# Altium schematic symbol library MCU_Texas_MSP430.SchLib: 361 symbols (part 2 of 9)
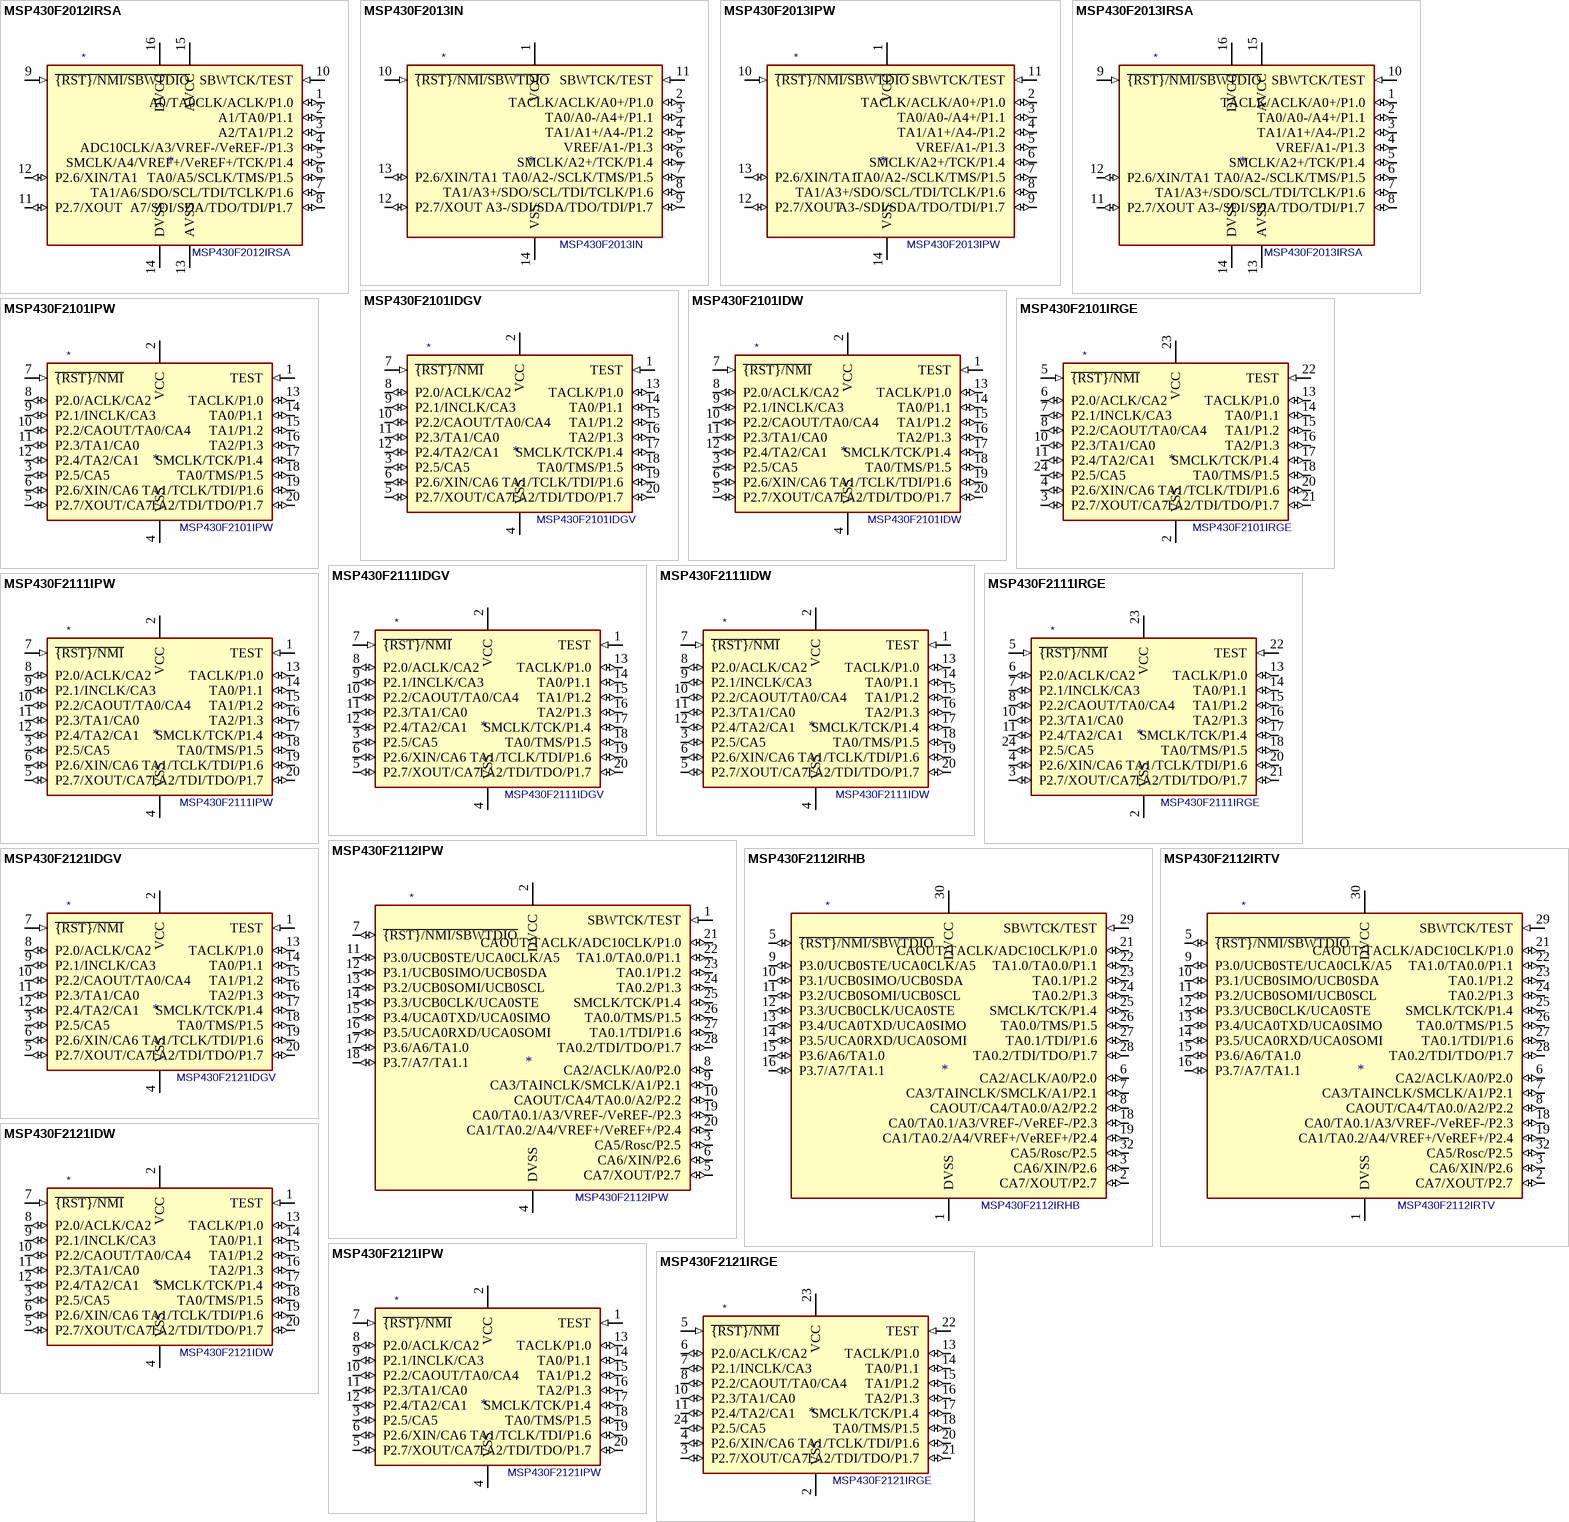
[diagram p35: symbols MSP430F2012IRSA to MSP430F2121IRGE]

## MSP430F2101IDW
designator *  value MSP430F2101IDW
ki_keywords: TI MSP430 16-bit mixed signal microcontroller; ki_description: 1kB + 256B Flash, 128B RAM, SOWB-20; ki_fp_filters: SOIC*7.5x12.8mm*P1.27mm*; Footprint: Package_SO:SOIC-20W_7.5x12.8mm_P1.27mm; Supplier: http://www.ti.com/lit/ds/symlink/msp430f2101.pdf
footprint SOIC-20W_7.5x12.8mm_P1.27mm
pins: 1 TEST (in), 2 VCC (power), 3 P2.5/CA5 (io), 4 VSS (power), 5 P2.7/XOUT/CA7 (io), 6 P2.6/XIN/CA6 (io), 7 ~{{RST}/NMI} (in), 8 P2.0/ACLK/CA2 (io), 9 P2.1/INCLK/CA3 (io), 10 P2.2/CAOUT/TA0/CA4 (io), 11 P2.3/TA1/CA0 (io), 12 P2.4/TA2/CA1 (io), 13 TACLK/P1.0 (io), 14 TA0/P1.1 (io), 15 TA1/P1.2 (io), 16 TA2/P1.3 (io), 17 SMCLK/TCK/P1.4 (io), 18 TA0/TMS/P1.5 (io), 19 TA1/TCLK/TDI/P1.6 (io), 20 TA2/TDI/TDO/P1.7 (io)

## MSP430F2101IPW
designator *  value MSP430F2101IPW
ki_keywords: TI MSP430 16-bit mixed signal microcontroller; ki_description: 1kB + 256B Flash, 128B RAM, TSSOP-20; ki_fp_filters: TSSOP*4.4x6.5mm*P0.65mm*; Footprint: Package_SO:TSSOP-20_4.4x6.5mm_P0.65mm; Supplier: http://www.ti.com/lit/ds/symlink/msp430f2101.pdf
footprint TSSOP-20_4.4x6.5mm_P0.65mm
pins: 1 TEST (in), 2 VCC (power), 3 P2.5/CA5 (io), 4 VSS (power), 5 P2.7/XOUT/CA7 (io), 6 P2.6/XIN/CA6 (io), 7 ~{{RST}/NMI} (in), 8 P2.0/ACLK/CA2 (io), 9 P2.1/INCLK/CA3 (io), 10 P2.2/CAOUT/TA0/CA4 (io), 11 P2.3/TA1/CA0 (io), 12 P2.4/TA2/CA1 (io), 13 TACLK/P1.0 (io), 14 TA0/P1.1 (io), 15 TA1/P1.2 (io), 16 TA2/P1.3 (io), 17 SMCLK/TCK/P1.4 (io), 18 TA0/TMS/P1.5 (io), 19 TA1/TCLK/TDI/P1.6 (io), 20 TA2/TDI/TDO/P1.7 (io)

## MSP430F2101IRGE
designator *  value MSP430F2101IRGE
ki_keywords: TI MSP430 16-bit mixed signal microcontroller; ki_description: 1kB + 256B Flash, 128B RAM, QFN-24; ki_fp_filters: VQFN*1EP*4x4mm*P0.5mm*; Footprint: Package_DFN_QFN:VQFN-24-1EP_4x4mm_P0.5mm_EP2.45x2.45mm; Supplier: http://www.ti.com/lit/ds/symlink/msp430f2101.pdf
footprint VQFN-24-1EP_4x4mm_P0.5mm_EP2.45x2.45mm
pins: 2 VSS (power), 3 P2.7/XOUT/CA7 (io), 4 P2.6/XIN/CA6 (io), 5 ~{{RST}/NMI} (in), 6 P2.0/ACLK/CA2 (io), 7 P2.1/INCLK/CA3 (io), 8 P2.2/CAOUT/TA0/CA4 (io), 10 P2.3/TA1/CA0 (io), 11 P2.4/TA2/CA1 (io), 13 TACLK/P1.0 (io), 14 TA0/P1.1 (io), 15 TA1/P1.2 (io), 16 TA2/P1.3 (io), 17 SMCLK/TCK/P1.4 (io), 18 TA0/TMS/P1.5 (io), 20 TA1/TCLK/TDI/P1.6 (io), 21 TA2/TDI/TDO/P1.7 (io), 22 TEST (in), 23 VCC (power), 24 P2.5/CA5 (io)

## MSP430F2111IDGV
designator *  value MSP430F2111IDGV
ki_keywords: TI MSP430 16-bit mixed signal microcontroller; ki_description: 2kB + 256B Flash, 128B RAM, TVSOP-20; ki_fp_filters: TSSOP*4.4x6.5mm*P0.65mm*; Footprint: Package_SO:TSSOP-20_4.4x6.5mm_P0.65mm; Supplier: http://www.ti.com/lit/ds/symlink/msp430f2111.pdf
footprint TSSOP-20_4.4x6.5mm_P0.65mm
pins: 1 TEST (in), 2 VCC (power), 3 P2.5/CA5 (io), 4 VSS (power), 5 P2.7/XOUT/CA7 (io), 6 P2.6/XIN/CA6 (io), 7 ~{{RST}/NMI} (in), 8 P2.0/ACLK/CA2 (io), 9 P2.1/INCLK/CA3 (io), 10 P2.2/CAOUT/TA0/CA4 (io), 11 P2.3/TA1/CA0 (io), 12 P2.4/TA2/CA1 (io), 13 TACLK/P1.0 (io), 14 TA0/P1.1 (io), 15 TA1/P1.2 (io), 16 TA2/P1.3 (io), 17 SMCLK/TCK/P1.4 (io), 18 TA0/TMS/P1.5 (io), 19 TA1/TCLK/TDI/P1.6 (io), 20 TA2/TDI/TDO/P1.7 (io)

## MSP430F2111IDW
designator *  value MSP430F2111IDW
ki_keywords: TI MSP430 16-bit mixed signal microcontroller; ki_description: 2kB + 256B Flash, 128B RAM, SOWB-20; ki_fp_filters: SOIC*7.5x12.8mm*P1.27mm*; Footprint: Package_SO:SOIC-20W_7.5x12.8mm_P1.27mm; Supplier: http://www.ti.com/lit/ds/symlink/msp430f2111.pdf
footprint SOIC-20W_7.5x12.8mm_P1.27mm
pins: 1 TEST (in), 2 VCC (power), 3 P2.5/CA5 (io), 4 VSS (power), 5 P2.7/XOUT/CA7 (io), 6 P2.6/XIN/CA6 (io), 7 ~{{RST}/NMI} (in), 8 P2.0/ACLK/CA2 (io), 9 P2.1/INCLK/CA3 (io), 10 P2.2/CAOUT/TA0/CA4 (io), 11 P2.3/TA1/CA0 (io), 12 P2.4/TA2/CA1 (io), 13 TACLK/P1.0 (io), 14 TA0/P1.1 (io), 15 TA1/P1.2 (io), 16 TA2/P1.3 (io), 17 SMCLK/TCK/P1.4 (io), 18 TA0/TMS/P1.5 (io), 19 TA1/TCLK/TDI/P1.6 (io), 20 TA2/TDI/TDO/P1.7 (io)

## MSP430F2111IPW
designator *  value MSP430F2111IPW
ki_keywords: TI MSP430 16-bit mixed signal microcontroller; ki_description: 2kB + 256B Flash, 128B RAM, TSSOP-20; ki_fp_filters: TSSOP*4.4x6.5mm*P0.65mm*; Footprint: Package_SO:TSSOP-20_4.4x6.5mm_P0.65mm; Supplier: http://www.ti.com/lit/ds/symlink/msp430f2111.pdf
footprint TSSOP-20_4.4x6.5mm_P0.65mm
pins: 1 TEST (in), 2 VCC (power), 3 P2.5/CA5 (io), 4 VSS (power), 5 P2.7/XOUT/CA7 (io), 6 P2.6/XIN/CA6 (io), 7 ~{{RST}/NMI} (in), 8 P2.0/ACLK/CA2 (io), 9 P2.1/INCLK/CA3 (io), 10 P2.2/CAOUT/TA0/CA4 (io), 11 P2.3/TA1/CA0 (io), 12 P2.4/TA2/CA1 (io), 13 TACLK/P1.0 (io), 14 TA0/P1.1 (io), 15 TA1/P1.2 (io), 16 TA2/P1.3 (io), 17 SMCLK/TCK/P1.4 (io), 18 TA0/TMS/P1.5 (io), 19 TA1/TCLK/TDI/P1.6 (io), 20 TA2/TDI/TDO/P1.7 (io)

## MSP430F2111IRGE
designator *  value MSP430F2111IRGE
ki_keywords: TI MSP430 16-bit mixed signal microcontroller; ki_description: 2kB + 256B Flash, 128B RAM, QFN-24; ki_fp_filters: VQFN*1EP*4x4mm*P0.5mm*; Footprint: Package_DFN_QFN:VQFN-24-1EP_4x4mm_P0.5mm_EP2.45x2.45mm; Supplier: http://www.ti.com/lit/ds/symlink/msp430f2111.pdf
footprint VQFN-24-1EP_4x4mm_P0.5mm_EP2.45x2.45mm
pins: 2 VSS (power), 3 P2.7/XOUT/CA7 (io), 4 P2.6/XIN/CA6 (io), 5 ~{{RST}/NMI} (in), 6 P2.0/ACLK/CA2 (io), 7 P2.1/INCLK/CA3 (io), 8 P2.2/CAOUT/TA0/CA4 (io), 10 P2.3/TA1/CA0 (io), 11 P2.4/TA2/CA1 (io), 13 TACLK/P1.0 (io), 14 TA0/P1.1 (io), 15 TA1/P1.2 (io), 16 TA2/P1.3 (io), 17 SMCLK/TCK/P1.4 (io), 18 TA0/TMS/P1.5 (io), 20 TA1/TCLK/TDI/P1.6 (io), 21 TA2/TDI/TDO/P1.7 (io), 22 TEST (in), 23 VCC (power), 24 P2.5/CA5 (io)

## MSP430F2112IPW
designator *  value MSP430F2112IPW
ki_keywords: TI MSP430 16-bit mixed signal microcontroller; ki_description: 2kB + 256B Flash, 256B RAM, TSSOP-28; ki_fp_filters: TSSOP*4.4x9.7mm*P0.65mm*; Footprint: Package_SO:TSSOP-28_4.4x9.7mm_P0.65mm; Supplier: http://www.ti.com/lit/ds/symlink/msp430f2112.pdf
footprint TSSOP-28_4.4x9.7mm_P0.65mm
pins: 1 SBWTCK/TEST (in), 2 DVCC (power), 3 CA5/Rosc/P2.5 (io), 4 DVSS (power), 5 CA7/XOUT/P2.7 (io), 6 CA6/XIN/P2.6 (io), 7 ~{{RST}/NMI/SBWTDIO} (io), 8 CA2/ACLK/A0/P2.0 (io), 9 CA3/TAINCLK/SMCLK/A1/P2.1 (io), 10 CAOUT/CA4/TA0.0/A2/P2.2 (io), 11 P3.0/UCB0STE/UCA0CLK/A5 (io), 12 P3.1/UCB0SIMO/UCB0SDA (io), 13 P3.2/UCB0SOMI/UCB0SCL (io), 14 P3.3/UCB0CLK/UCA0STE (io), 15 P3.4/UCA0TXD/UCA0SIMO (io), 16 P3.5/UCA0RXD/UCA0SOMI (io), 17 P3.6/A6/TA1.0 (io), 18 P3.7/A7/TA1.1 (io), 19 CA0/TA0.1/A3/VREF-/VeREF-/P2.3 (io), 20 CA1/TA0.2/A4/VREF+/VeREF+/P2.4 (io), 21 CAOUT/TACLK/ADC10CLK/P1.0 (io), 22 TA1.0/TA0.0/P1.1 (io), 23 TA0.1/P1.2 (io), 24 TA0.2/P1.3 (io), 25 SMCLK/TCK/P1.4 (io), 26 TA0.0/TMS/P1.5 (io), 27 TA0.1/TDI/P1.6 (io), 28 TA0.2/TDI/TDO/P1.7 (io)

## MSP430F2112IRHB
designator *  value MSP430F2112IRHB
ki_keywords: TI MSP430 16-bit mixed signal microcontroller; ki_description: 2kB + 256B Flash, 256B RAM, QFN-32; ki_fp_filters: Texas*S?PVQFN*; Footprint: Package_DFN_QFN:Texas_S-PVQFN-N32_EP3.45x3.45mm; Supplier: http://www.ti.com/lit/ds/symlink/msp430f2112.pdf
footprint Texas_S-PVQFN-N32_EP3.45x3.45mm
pins: 1 DVSS (power), 2 CA7/XOUT/P2.7 (io), 3 CA6/XIN/P2.6 (io), 5 ~{{RST}/NMI/SBWTDIO} (io), 6 CA2/ACLK/A0/P2.0 (io), 7 CA3/TAINCLK/SMCLK/A1/P2.1 (io), 8 CAOUT/CA4/TA0.0/A2/P2.2 (io), 9 P3.0/UCB0STE/UCA0CLK/A5 (io), 10 P3.1/UCB0SIMO/UCB0SDA (io), 11 P3.2/UCB0SOMI/UCB0SCL (io), 12 P3.3/UCB0CLK/UCA0STE (io), 13 P3.4/UCA0TXD/UCA0SIMO (io), 14 P3.5/UCA0RXD/UCA0SOMI (io), 15 P3.6/A6/TA1.0 (io), 16 P3.7/A7/TA1.1 (io), 18 CA0/TA0.1/A3/VREF-/VeREF-/P2.3 (io), 19 CA1/TA0.2/A4/VREF+/VeREF+/P2.4 (io), 21 CAOUT/TACLK/ADC10CLK/P1.0 (io), 22 TA1.0/TA0.0/P1.1 (io), 23 TA0.1/P1.2 (io), 24 TA0.2/P1.3 (io), 25 SMCLK/TCK/P1.4 (io), 26 TA0.0/TMS/P1.5 (io), 27 TA0.1/TDI/P1.6 (io), 28 TA0.2/TDI/TDO/P1.7 (io), 29 SBWTCK/TEST (in), 30 DVCC (power), 32 CA5/Rosc/P2.5 (io)

## MSP430F2112IRTV
designator *  value MSP430F2112IRTV
ki_keywords: TI MSP430 16-bit mixed signal microcontroller; ki_description: 2kB + 256B Flash, 256B RAM, QFN-32; ki_fp_filters: Texas*S?PVQFN*; Footprint: Package_DFN_QFN:Texas_S-PVQFN-N32_EP3.45x3.45mm; Supplier: http://www.ti.com/lit/ds/symlink/msp430f2112.pdf
footprint Texas_S-PVQFN-N32_EP3.45x3.45mm
pins: 1 DVSS (power), 2 CA7/XOUT/P2.7 (io), 3 CA6/XIN/P2.6 (io), 5 ~{{RST}/NMI/SBWTDIO} (io), 6 CA2/ACLK/A0/P2.0 (io), 7 CA3/TAINCLK/SMCLK/A1/P2.1 (io), 8 CAOUT/CA4/TA0.0/A2/P2.2 (io), 9 P3.0/UCB0STE/UCA0CLK/A5 (io), 10 P3.1/UCB0SIMO/UCB0SDA (io), 11 P3.2/UCB0SOMI/UCB0SCL (io), 12 P3.3/UCB0CLK/UCA0STE (io), 13 P3.4/UCA0TXD/UCA0SIMO (io), 14 P3.5/UCA0RXD/UCA0SOMI (io), 15 P3.6/A6/TA1.0 (io), 16 P3.7/A7/TA1.1 (io), 18 CA0/TA0.1/A3/VREF-/VeREF-/P2.3 (io), 19 CA1/TA0.2/A4/VREF+/VeREF+/P2.4 (io), 21 CAOUT/TACLK/ADC10CLK/P1.0 (io), 22 TA1.0/TA0.0/P1.1 (io), 23 TA0.1/P1.2 (io), 24 TA0.2/P1.3 (io), 25 SMCLK/TCK/P1.4 (io), 26 TA0.0/TMS/P1.5 (io), 27 TA0.1/TDI/P1.6 (io), 28 TA0.2/TDI/TDO/P1.7 (io), 29 SBWTCK/TEST (in), 30 DVCC (power), 32 CA5/Rosc/P2.5 (io)

## MSP430F2121IDGV
designator *  value MSP430F2121IDGV
ki_keywords: TI MSP430 16-bit mixed signal microcontroller; ki_description: 4kB + 256B Flash, 256B RAM, TVSOP-20; ki_fp_filters: TSSOP*4.4x6.5mm*P0.65mm*; Footprint: Package_SO:TSSOP-20_4.4x6.5mm_P0.65mm; Supplier: http://www.ti.com/lit/ds/symlink/msp430f2121.pdf
footprint TSSOP-20_4.4x6.5mm_P0.65mm
pins: 1 TEST (in), 2 VCC (power), 3 P2.5/CA5 (io), 4 VSS (power), 5 P2.7/XOUT/CA7 (io), 6 P2.6/XIN/CA6 (io), 7 ~{{RST}/NMI} (in), 8 P2.0/ACLK/CA2 (io), 9 P2.1/INCLK/CA3 (io), 10 P2.2/CAOUT/TA0/CA4 (io), 11 P2.3/TA1/CA0 (io), 12 P2.4/TA2/CA1 (io), 13 TACLK/P1.0 (io), 14 TA0/P1.1 (io), 15 TA1/P1.2 (io), 16 TA2/P1.3 (io), 17 SMCLK/TCK/P1.4 (io), 18 TA0/TMS/P1.5 (io), 19 TA1/TCLK/TDI/P1.6 (io), 20 TA2/TDI/TDO/P1.7 (io)

## MSP430F2121IDW
designator *  value MSP430F2121IDW
ki_keywords: TI MSP430 16-bit mixed signal microcontroller; ki_description: 4kB + 256B Flash, 256B RAM, SOWB-20; ki_fp_filters: SOIC*7.5x12.8mm*P1.27mm*; Footprint: Package_SO:SOIC-20W_7.5x12.8mm_P1.27mm; Supplier: http://www.ti.com/lit/ds/symlink/msp430f2121.pdf
footprint SOIC-20W_7.5x12.8mm_P1.27mm
pins: 1 TEST (in), 2 VCC (power), 3 P2.5/CA5 (io), 4 VSS (power), 5 P2.7/XOUT/CA7 (io), 6 P2.6/XIN/CA6 (io), 7 ~{{RST}/NMI} (in), 8 P2.0/ACLK/CA2 (io), 9 P2.1/INCLK/CA3 (io), 10 P2.2/CAOUT/TA0/CA4 (io), 11 P2.3/TA1/CA0 (io), 12 P2.4/TA2/CA1 (io), 13 TACLK/P1.0 (io), 14 TA0/P1.1 (io), 15 TA1/P1.2 (io), 16 TA2/P1.3 (io), 17 SMCLK/TCK/P1.4 (io), 18 TA0/TMS/P1.5 (io), 19 TA1/TCLK/TDI/P1.6 (io), 20 TA2/TDI/TDO/P1.7 (io)

## MSP430F2121IPW
designator *  value MSP430F2121IPW
ki_keywords: TI MSP430 16-bit mixed signal microcontroller; ki_description: 4kB + 256B Flash, 256B RAM, TSSOP-20; ki_fp_filters: TSSOP*4.4x6.5mm*P0.65mm*; Footprint: Package_SO:TSSOP-20_4.4x6.5mm_P0.65mm; Supplier: http://www.ti.com/lit/ds/symlink/msp430f2121.pdf
footprint TSSOP-20_4.4x6.5mm_P0.65mm
pins: 1 TEST (in), 2 VCC (power), 3 P2.5/CA5 (io), 4 VSS (power), 5 P2.7/XOUT/CA7 (io), 6 P2.6/XIN/CA6 (io), 7 ~{{RST}/NMI} (in), 8 P2.0/ACLK/CA2 (io), 9 P2.1/INCLK/CA3 (io), 10 P2.2/CAOUT/TA0/CA4 (io), 11 P2.3/TA1/CA0 (io), 12 P2.4/TA2/CA1 (io), 13 TACLK/P1.0 (io), 14 TA0/P1.1 (io), 15 TA1/P1.2 (io), 16 TA2/P1.3 (io), 17 SMCLK/TCK/P1.4 (io), 18 TA0/TMS/P1.5 (io), 19 TA1/TCLK/TDI/P1.6 (io), 20 TA2/TDI/TDO/P1.7 (io)

## MSP430F2121IRGE
designator *  value MSP430F2121IRGE
ki_keywords: TI MSP430 16-bit mixed signal microcontroller; ki_description: 4kB + 256B Flash, 256B RAM, QFN-24; ki_fp_filters: VQFN*1EP*4x4mm*P0.5mm*; Footprint: Package_DFN_QFN:VQFN-24-1EP_4x4mm_P0.5mm_EP2.45x2.45mm; Supplier: http://www.ti.com/lit/ds/symlink/msp430f2121.pdf
footprint VQFN-24-1EP_4x4mm_P0.5mm_EP2.45x2.45mm
pins: 2 VSS (power), 3 P2.7/XOUT/CA7 (io), 4 P2.6/XIN/CA6 (io), 5 ~{{RST}/NMI} (in), 6 P2.0/ACLK/CA2 (io), 7 P2.1/INCLK/CA3 (io), 8 P2.2/CAOUT/TA0/CA4 (io), 10 P2.3/TA1/CA0 (io), 11 P2.4/TA2/CA1 (io), 13 TACLK/P1.0 (io), 14 TA0/P1.1 (io), 15 TA1/P1.2 (io), 16 TA2/P1.3 (io), 17 SMCLK/TCK/P1.4 (io), 18 TA0/TMS/P1.5 (io), 20 TA1/TCLK/TDI/P1.6 (io), 21 TA2/TDI/TDO/P1.7 (io), 22 TEST (in), 23 VCC (power), 24 P2.5/CA5 (io)

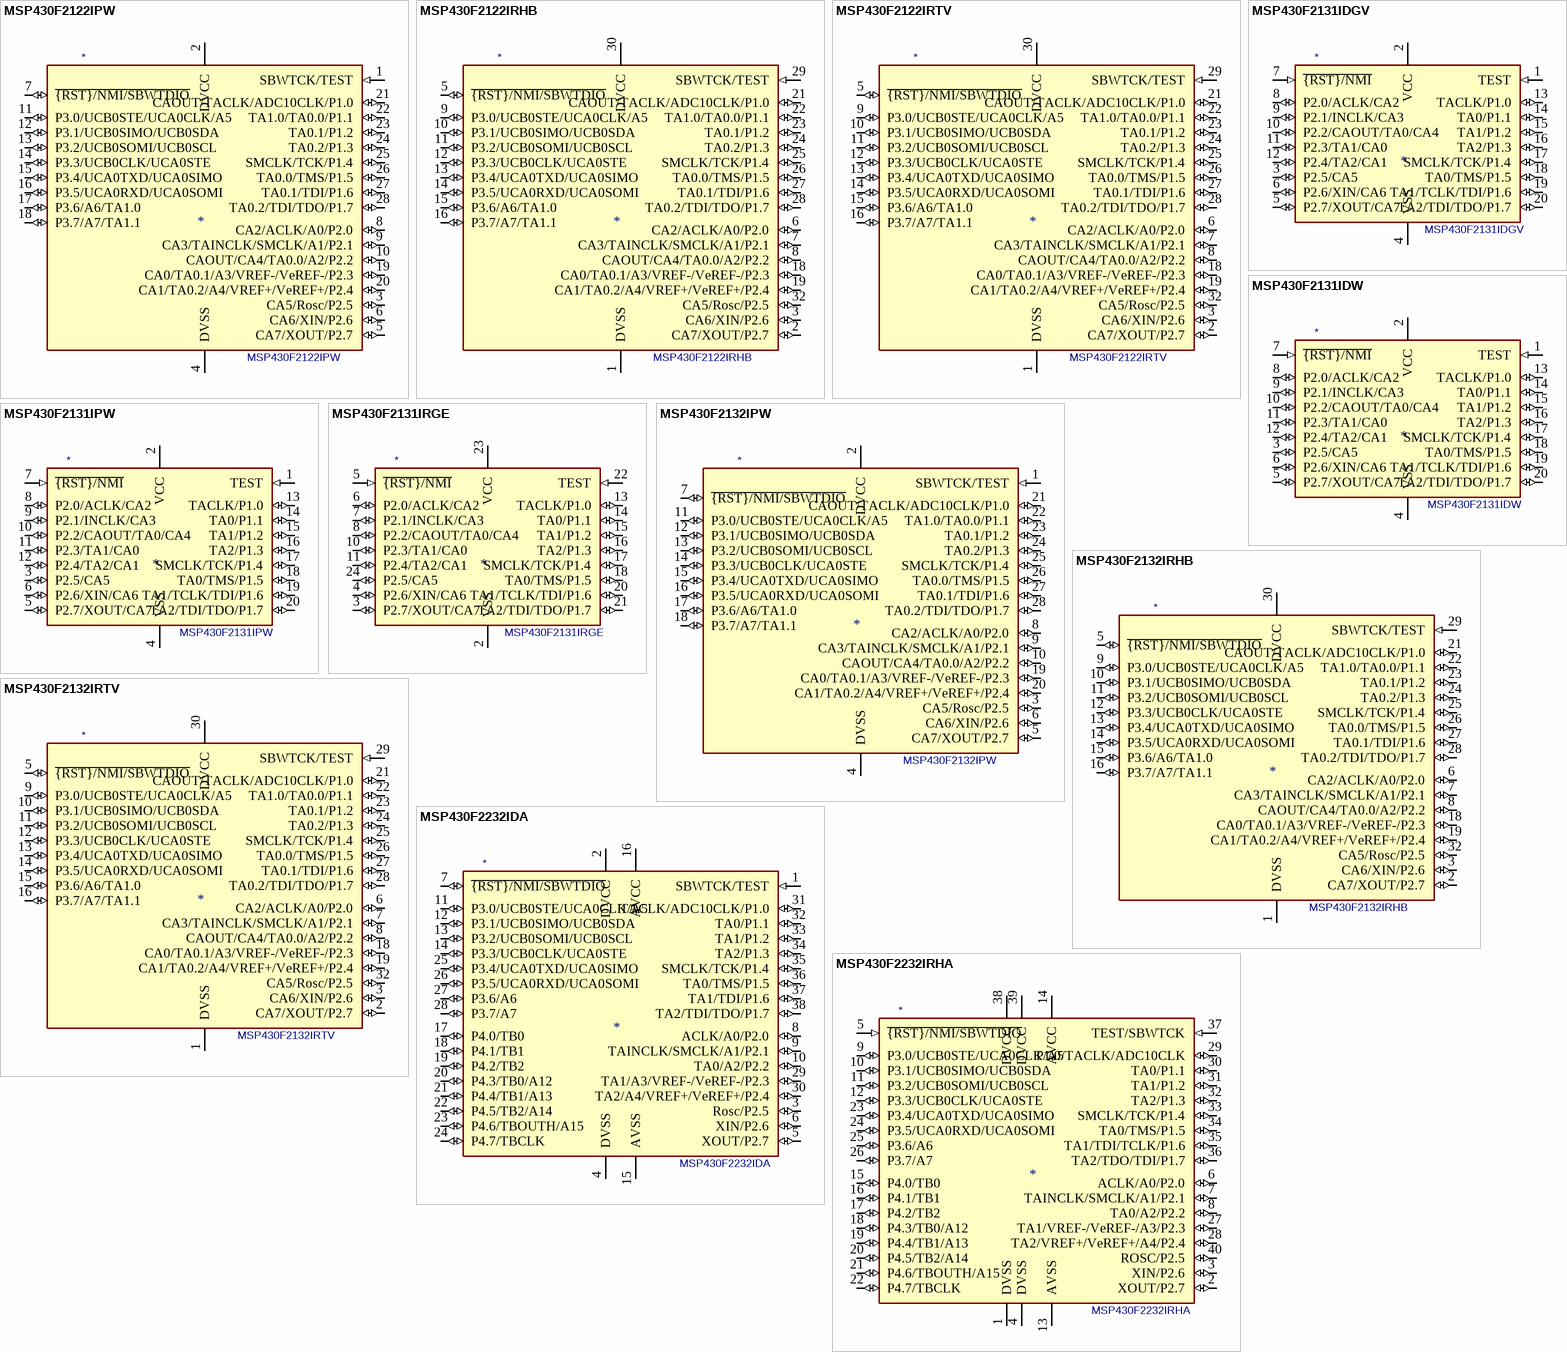
[diagram p4: symbols MSP430F2122IPW to MSP430F2232IRHA]

## MSP430F2122IPW
designator *  value MSP430F2122IPW
ki_keywords: TI MSP430 16-bit mixed signal microcontroller; ki_description: 4kB + 256B Flash, 512B RAM, TSSOP-28; ki_fp_filters: TSSOP*4.4x9.7mm*P0.65mm*; Footprint: Package_SO:TSSOP-28_4.4x9.7mm_P0.65mm; Supplier: http://www.ti.com/lit/ds/symlink/msp430f2122.pdf
footprint TSSOP-28_4.4x9.7mm_P0.65mm
pins: 1 SBWTCK/TEST (in), 2 DVCC (power), 3 CA5/Rosc/P2.5 (io), 4 DVSS (power), 5 CA7/XOUT/P2.7 (io), 6 CA6/XIN/P2.6 (io), 7 ~{{RST}/NMI/SBWTDIO} (io), 8 CA2/ACLK/A0/P2.0 (io), 9 CA3/TAINCLK/SMCLK/A1/P2.1 (io), 10 CAOUT/CA4/TA0.0/A2/P2.2 (io), 11 P3.0/UCB0STE/UCA0CLK/A5 (io), 12 P3.1/UCB0SIMO/UCB0SDA (io), 13 P3.2/UCB0SOMI/UCB0SCL (io), 14 P3.3/UCB0CLK/UCA0STE (io), 15 P3.4/UCA0TXD/UCA0SIMO (io), 16 P3.5/UCA0RXD/UCA0SOMI (io), 17 P3.6/A6/TA1.0 (io), 18 P3.7/A7/TA1.1 (io), 19 CA0/TA0.1/A3/VREF-/VeREF-/P2.3 (io), 20 CA1/TA0.2/A4/VREF+/VeREF+/P2.4 (io), 21 CAOUT/TACLK/ADC10CLK/P1.0 (io), 22 TA1.0/TA0.0/P1.1 (io), 23 TA0.1/P1.2 (io), 24 TA0.2/P1.3 (io), 25 SMCLK/TCK/P1.4 (io), 26 TA0.0/TMS/P1.5 (io), 27 TA0.1/TDI/P1.6 (io), 28 TA0.2/TDI/TDO/P1.7 (io)

## MSP430F2122IRHB
designator *  value MSP430F2122IRHB
ki_keywords: TI MSP430 16-bit mixed signal microcontroller; ki_description: 4kB + 256B Flash, 512B RAM, QFN-32; ki_fp_filters: Texas*S?PVQFN*; Footprint: Package_DFN_QFN:Texas_S-PVQFN-N32_EP3.45x3.45mm; Supplier: http://www.ti.com/lit/ds/symlink/msp430f2122.pdf
footprint Texas_S-PVQFN-N32_EP3.45x3.45mm
pins: 1 DVSS (power), 2 CA7/XOUT/P2.7 (io), 3 CA6/XIN/P2.6 (io), 5 ~{{RST}/NMI/SBWTDIO} (io), 6 CA2/ACLK/A0/P2.0 (io), 7 CA3/TAINCLK/SMCLK/A1/P2.1 (io), 8 CAOUT/CA4/TA0.0/A2/P2.2 (io), 9 P3.0/UCB0STE/UCA0CLK/A5 (io), 10 P3.1/UCB0SIMO/UCB0SDA (io), 11 P3.2/UCB0SOMI/UCB0SCL (io), 12 P3.3/UCB0CLK/UCA0STE (io), 13 P3.4/UCA0TXD/UCA0SIMO (io), 14 P3.5/UCA0RXD/UCA0SOMI (io), 15 P3.6/A6/TA1.0 (io), 16 P3.7/A7/TA1.1 (io), 18 CA0/TA0.1/A3/VREF-/VeREF-/P2.3 (io), 19 CA1/TA0.2/A4/VREF+/VeREF+/P2.4 (io), 21 CAOUT/TACLK/ADC10CLK/P1.0 (io), 22 TA1.0/TA0.0/P1.1 (io), 23 TA0.1/P1.2 (io), 24 TA0.2/P1.3 (io), 25 SMCLK/TCK/P1.4 (io), 26 TA0.0/TMS/P1.5 (io), 27 TA0.1/TDI/P1.6 (io), 28 TA0.2/TDI/TDO/P1.7 (io), 29 SBWTCK/TEST (in), 30 DVCC (power), 32 CA5/Rosc/P2.5 (io)

## MSP430F2122IRTV
designator *  value MSP430F2122IRTV
ki_keywords: TI MSP430 16-bit mixed signal microcontroller; ki_description: 4kB + 256B Flash, 512B RAM, QFN-32; ki_fp_filters: Texas*S?PVQFN*; Footprint: Package_DFN_QFN:Texas_S-PVQFN-N32_EP3.45x3.45mm; Supplier: http://www.ti.com/lit/ds/symlink/msp430f2122.pdf
footprint Texas_S-PVQFN-N32_EP3.45x3.45mm
pins: 1 DVSS (power), 2 CA7/XOUT/P2.7 (io), 3 CA6/XIN/P2.6 (io), 5 ~{{RST}/NMI/SBWTDIO} (io), 6 CA2/ACLK/A0/P2.0 (io), 7 CA3/TAINCLK/SMCLK/A1/P2.1 (io), 8 CAOUT/CA4/TA0.0/A2/P2.2 (io), 9 P3.0/UCB0STE/UCA0CLK/A5 (io), 10 P3.1/UCB0SIMO/UCB0SDA (io), 11 P3.2/UCB0SOMI/UCB0SCL (io), 12 P3.3/UCB0CLK/UCA0STE (io), 13 P3.4/UCA0TXD/UCA0SIMO (io), 14 P3.5/UCA0RXD/UCA0SOMI (io), 15 P3.6/A6/TA1.0 (io), 16 P3.7/A7/TA1.1 (io), 18 CA0/TA0.1/A3/VREF-/VeREF-/P2.3 (io), 19 CA1/TA0.2/A4/VREF+/VeREF+/P2.4 (io), 21 CAOUT/TACLK/ADC10CLK/P1.0 (io), 22 TA1.0/TA0.0/P1.1 (io), 23 TA0.1/P1.2 (io), 24 TA0.2/P1.3 (io), 25 SMCLK/TCK/P1.4 (io), 26 TA0.0/TMS/P1.5 (io), 27 TA0.1/TDI/P1.6 (io), 28 TA0.2/TDI/TDO/P1.7 (io), 29 SBWTCK/TEST (in), 30 DVCC (power), 32 CA5/Rosc/P2.5 (io)

## MSP430F2131IDGV
designator *  value MSP430F2131IDGV
ki_keywords: TI MSP430 16-bit mixed signal microcontroller; ki_description: 8kB + 256B Flash, 256B RAM, TVSOP-20; ki_fp_filters: TSSOP*4.4x6.5mm*P0.65mm*; Footprint: Package_SO:TSSOP-20_4.4x6.5mm_P0.65mm; Supplier: http://www.ti.com/lit/ds/symlink/msp430f2131.pdf
footprint TSSOP-20_4.4x6.5mm_P0.65mm
pins: 1 TEST (in), 2 VCC (power), 3 P2.5/CA5 (io), 4 VSS (power), 5 P2.7/XOUT/CA7 (io), 6 P2.6/XIN/CA6 (io), 7 ~{{RST}/NMI} (in), 8 P2.0/ACLK/CA2 (io), 9 P2.1/INCLK/CA3 (io), 10 P2.2/CAOUT/TA0/CA4 (io), 11 P2.3/TA1/CA0 (io), 12 P2.4/TA2/CA1 (io), 13 TACLK/P1.0 (io), 14 TA0/P1.1 (io), 15 TA1/P1.2 (io), 16 TA2/P1.3 (io), 17 SMCLK/TCK/P1.4 (io), 18 TA0/TMS/P1.5 (io), 19 TA1/TCLK/TDI/P1.6 (io), 20 TA2/TDI/TDO/P1.7 (io)

## MSP430F2131IDW
designator *  value MSP430F2131IDW
ki_keywords: TI MSP430 16-bit mixed signal microcontroller; ki_description: 8kB + 256B Flash, 256B RAM, SOWB-20; ki_fp_filters: SOIC*7.5x12.8mm*P1.27mm*; Footprint: Package_SO:SOIC-20W_7.5x12.8mm_P1.27mm; Supplier: http://www.ti.com/lit/ds/symlink/msp430f2131.pdf
footprint SOIC-20W_7.5x12.8mm_P1.27mm
pins: 1 TEST (in), 2 VCC (power), 3 P2.5/CA5 (io), 4 VSS (power), 5 P2.7/XOUT/CA7 (io), 6 P2.6/XIN/CA6 (io), 7 ~{{RST}/NMI} (in), 8 P2.0/ACLK/CA2 (io), 9 P2.1/INCLK/CA3 (io), 10 P2.2/CAOUT/TA0/CA4 (io), 11 P2.3/TA1/CA0 (io), 12 P2.4/TA2/CA1 (io), 13 TACLK/P1.0 (io), 14 TA0/P1.1 (io), 15 TA1/P1.2 (io), 16 TA2/P1.3 (io), 17 SMCLK/TCK/P1.4 (io), 18 TA0/TMS/P1.5 (io), 19 TA1/TCLK/TDI/P1.6 (io), 20 TA2/TDI/TDO/P1.7 (io)

## MSP430F2131IPW
designator *  value MSP430F2131IPW
ki_keywords: TI MSP430 16-bit mixed signal microcontroller; ki_description: 8kB + 256B Flash, 256B RAM, TSSOP-20; ki_fp_filters: TSSOP*4.4x6.5mm*P0.65mm*; Footprint: Package_SO:TSSOP-20_4.4x6.5mm_P0.65mm; Supplier: http://www.ti.com/lit/ds/symlink/msp430f2131.pdf
footprint TSSOP-20_4.4x6.5mm_P0.65mm
pins: 1 TEST (in), 2 VCC (power), 3 P2.5/CA5 (io), 4 VSS (power), 5 P2.7/XOUT/CA7 (io), 6 P2.6/XIN/CA6 (io), 7 ~{{RST}/NMI} (in), 8 P2.0/ACLK/CA2 (io), 9 P2.1/INCLK/CA3 (io), 10 P2.2/CAOUT/TA0/CA4 (io), 11 P2.3/TA1/CA0 (io), 12 P2.4/TA2/CA1 (io), 13 TACLK/P1.0 (io), 14 TA0/P1.1 (io), 15 TA1/P1.2 (io), 16 TA2/P1.3 (io), 17 SMCLK/TCK/P1.4 (io), 18 TA0/TMS/P1.5 (io), 19 TA1/TCLK/TDI/P1.6 (io), 20 TA2/TDI/TDO/P1.7 (io)

## MSP430F2131IRGE
designator *  value MSP430F2131IRGE
ki_keywords: TI MSP430 16-bit mixed signal microcontroller; ki_description: 8kB + 256B Flash, 256B RAM, QFN-24; ki_fp_filters: VQFN*1EP*4x4mm*P0.5mm*; Footprint: Package_DFN_QFN:VQFN-24-1EP_4x4mm_P0.5mm_EP2.45x2.45mm; Supplier: http://www.ti.com/lit/ds/symlink/msp430f2131.pdf
footprint VQFN-24-1EP_4x4mm_P0.5mm_EP2.45x2.45mm
pins: 2 VSS (power), 3 P2.7/XOUT/CA7 (io), 4 P2.6/XIN/CA6 (io), 5 ~{{RST}/NMI} (in), 6 P2.0/ACLK/CA2 (io), 7 P2.1/INCLK/CA3 (io), 8 P2.2/CAOUT/TA0/CA4 (io), 10 P2.3/TA1/CA0 (io), 11 P2.4/TA2/CA1 (io), 13 TACLK/P1.0 (io), 14 TA0/P1.1 (io), 15 TA1/P1.2 (io), 16 TA2/P1.3 (io), 17 SMCLK/TCK/P1.4 (io), 18 TA0/TMS/P1.5 (io), 20 TA1/TCLK/TDI/P1.6 (io), 21 TA2/TDI/TDO/P1.7 (io), 22 TEST (in), 23 VCC (power), 24 P2.5/CA5 (io)

## MSP430F2132IPW
designator *  value MSP430F2132IPW
ki_keywords: TI MSP430 16-bit mixed signal microcontroller; ki_description: 8kB + 256B Flash, 512B RAM, TSSOP-28; ki_fp_filters: TSSOP*4.4x9.7mm*P0.65mm*; Footprint: Package_SO:TSSOP-28_4.4x9.7mm_P0.65mm; Supplier: http://www.ti.com/lit/ds/symlink/msp430f2132.pdf
footprint TSSOP-28_4.4x9.7mm_P0.65mm
pins: 1 SBWTCK/TEST (in), 2 DVCC (power), 3 CA5/Rosc/P2.5 (io), 4 DVSS (power), 5 CA7/XOUT/P2.7 (io), 6 CA6/XIN/P2.6 (io), 7 ~{{RST}/NMI/SBWTDIO} (io), 8 CA2/ACLK/A0/P2.0 (io), 9 CA3/TAINCLK/SMCLK/A1/P2.1 (io), 10 CAOUT/CA4/TA0.0/A2/P2.2 (io), 11 P3.0/UCB0STE/UCA0CLK/A5 (io), 12 P3.1/UCB0SIMO/UCB0SDA (io), 13 P3.2/UCB0SOMI/UCB0SCL (io), 14 P3.3/UCB0CLK/UCA0STE (io), 15 P3.4/UCA0TXD/UCA0SIMO (io), 16 P3.5/UCA0RXD/UCA0SOMI (io), 17 P3.6/A6/TA1.0 (io), 18 P3.7/A7/TA1.1 (io), 19 CA0/TA0.1/A3/VREF-/VeREF-/P2.3 (io), 20 CA1/TA0.2/A4/VREF+/VeREF+/P2.4 (io), 21 CAOUT/TACLK/ADC10CLK/P1.0 (io), 22 TA1.0/TA0.0/P1.1 (io), 23 TA0.1/P1.2 (io), 24 TA0.2/P1.3 (io), 25 SMCLK/TCK/P1.4 (io), 26 TA0.0/TMS/P1.5 (io), 27 TA0.1/TDI/P1.6 (io), 28 TA0.2/TDI/TDO/P1.7 (io)

## MSP430F2132IRHB
designator *  value MSP430F2132IRHB
ki_keywords: TI MSP430 16-bit mixed signal microcontroller; ki_description: 8kB + 256B Flash, 512B RAM, QFN-32; ki_fp_filters: Texas*S?PVQFN*; Footprint: Package_DFN_QFN:Texas_S-PVQFN-N32_EP3.45x3.45mm; Supplier: http://www.ti.com/lit/ds/symlink/msp430f2132.pdf
footprint Texas_S-PVQFN-N32_EP3.45x3.45mm
pins: 1 DVSS (power), 2 CA7/XOUT/P2.7 (io), 3 CA6/XIN/P2.6 (io), 5 ~{{RST}/NMI/SBWTDIO} (io), 6 CA2/ACLK/A0/P2.0 (io), 7 CA3/TAINCLK/SMCLK/A1/P2.1 (io), 8 CAOUT/CA4/TA0.0/A2/P2.2 (io), 9 P3.0/UCB0STE/UCA0CLK/A5 (io), 10 P3.1/UCB0SIMO/UCB0SDA (io), 11 P3.2/UCB0SOMI/UCB0SCL (io), 12 P3.3/UCB0CLK/UCA0STE (io), 13 P3.4/UCA0TXD/UCA0SIMO (io), 14 P3.5/UCA0RXD/UCA0SOMI (io), 15 P3.6/A6/TA1.0 (io), 16 P3.7/A7/TA1.1 (io), 18 CA0/TA0.1/A3/VREF-/VeREF-/P2.3 (io), 19 CA1/TA0.2/A4/VREF+/VeREF+/P2.4 (io), 21 CAOUT/TACLK/ADC10CLK/P1.0 (io), 22 TA1.0/TA0.0/P1.1 (io), 23 TA0.1/P1.2 (io), 24 TA0.2/P1.3 (io), 25 SMCLK/TCK/P1.4 (io), 26 TA0.0/TMS/P1.5 (io), 27 TA0.1/TDI/P1.6 (io), 28 TA0.2/TDI/TDO/P1.7 (io), 29 SBWTCK/TEST (in), 30 DVCC (power), 32 CA5/Rosc/P2.5 (io)

## MSP430F2132IRTV
designator *  value MSP430F2132IRTV
ki_keywords: TI MSP430 16-bit mixed signal microcontroller; ki_description: 8kB + 256B Flash, 512B RAM, QFN-32; ki_fp_filters: Texas*S?PVQFN*; Footprint: Package_DFN_QFN:Texas_S-PVQFN-N32_EP3.45x3.45mm; Supplier: http://www.ti.com/lit/ds/symlink/msp430f2132.pdf
footprint Texas_S-PVQFN-N32_EP3.45x3.45mm
pins: 1 DVSS (power), 2 CA7/XOUT/P2.7 (io), 3 CA6/XIN/P2.6 (io), 5 ~{{RST}/NMI/SBWTDIO} (io), 6 CA2/ACLK/A0/P2.0 (io), 7 CA3/TAINCLK/SMCLK/A1/P2.1 (io), 8 CAOUT/CA4/TA0.0/A2/P2.2 (io), 9 P3.0/UCB0STE/UCA0CLK/A5 (io), 10 P3.1/UCB0SIMO/UCB0SDA (io), 11 P3.2/UCB0SOMI/UCB0SCL (io), 12 P3.3/UCB0CLK/UCA0STE (io), 13 P3.4/UCA0TXD/UCA0SIMO (io), 14 P3.5/UCA0RXD/UCA0SOMI (io), 15 P3.6/A6/TA1.0 (io), 16 P3.7/A7/TA1.1 (io), 18 CA0/TA0.1/A3/VREF-/VeREF-/P2.3 (io), 19 CA1/TA0.2/A4/VREF+/VeREF+/P2.4 (io), 21 CAOUT/TACLK/ADC10CLK/P1.0 (io), 22 TA1.0/TA0.0/P1.1 (io), 23 TA0.1/P1.2 (io), 24 TA0.2/P1.3 (io), 25 SMCLK/TCK/P1.4 (io), 26 TA0.0/TMS/P1.5 (io), 27 TA0.1/TDI/P1.6 (io), 28 TA0.2/TDI/TDO/P1.7 (io), 29 SBWTCK/TEST (in), 30 DVCC (power), 32 CA5/Rosc/P2.5 (io)

## MSP430F2232IDA
designator *  value MSP430F2232IDA
ki_keywords: TI MSP430 16-bit mixed signal microcontroller; ki_description: 8kB + 256B Flash, 512B RAM, TSSOP-38; ki_fp_filters: TSSOP*6.1x12.5mm*P0.65mm*; Footprint: Package_SO:TSSOP-38_6.1x12.5mm_P0.65mm; Supplier: http://www.ti.com/lit/ds/symlink/msp430f2232.pdf
footprint TSSOP-38_6.1x12.5mm_P0.65mm
pins: 1 SBWTCK/TEST (in), 2 DVCC (power), 3 Rosc/P2.5 (io), 4 DVSS (power), 5 XOUT/P2.7 (io), 6 XIN/P2.6 (io), 7 ~{{RST}/NMI/SBWTDIO} (io), 8 ACLK/A0/P2.0 (io), 9 TAINCLK/SMCLK/A1/P2.1 (io), 10 TA0/A2/P2.2 (io), 11 P3.0/UCB0STE/UCA0CLK/A5 (io), 12 P3.1/UCB0SIMO/UCB0SDA (io), 13 P3.2/UCB0SOMI/UCB0SCL (io), 14 P3.3/UCB0CLK/UCA0STE (io), 15 AVSS (power), 16 AVCC (power), 17 P4.0/TB0 (io), 18 P4.1/TB1 (io), 19 P4.2/TB2 (io), 20 P4.3/TB0/A12 (io), 21 P4.4/TB1/A13 (io), 22 P4.5/TB2/A14 (io), 23 P4.6/TBOUTH/A15 (io), 24 P4.7/TBCLK (io), 25 P3.4/UCA0TXD/UCA0SIMO (io), 26 P3.5/UCA0RXD/UCA0SOMI (io), 27 P3.6/A6 (io), 28 P3.7/A7 (io), 29 TA1/A3/VREF-/VeREF-/P2.3 (io), 30 TA2/A4/VREF+/VeREF+/P2.4 (io), 31 TACLK/ADC10CLK/P1.0 (io), 32 TA0/P1.1 (io), 33 TA1/P1.2 (io), 34 TA2/P1.3 (io), 35 SMCLK/TCK/P1.4 (io), 36 TA0/TMS/P1.5 (io), 37 TA1/TDI/P1.6 (io), 38 TA2/TDI/TDO/P1.7 (io)

## MSP430F2232IRHA
designator *  value MSP430F2232IRHA
ki_keywords: TI MSP430 16-bit mixed signal microcontroller; ki_description: 8kB + 256B Flash, 512B RAM, QFN-40; ki_fp_filters: Texas*S?PVQFN*; Footprint: Package_DFN_QFN:Texas_S-PVQFN-N40_EP4.15x4.15mm; Supplier: http://www.ti.com/lit/ds/symlink/msp430f2232.pdf
footprint Texas_S-PVQFN-N40_EP4.15x4.15mm
pins: 1 DVSS (power), 2 XOUT/P2.7 (io), 3 XIN/P2.6 (io), 4 DVSS (power), 5 ~{{RST}/NMI/SBWTDIO} (in), 6 ACLK/A0/P2.0 (io), 7 TAINCLK/SMCLK/A1/P2.1 (io), 8 TA0/A2/P2.2 (io), 9 P3.0/UCB0STE/UCA0CLK/A5 (io), 10 P3.1/UCB0SIMO/UCB0SDA (io), 11 P3.2/UCB0SOMI/UCB0SCL (io), 12 P3.3/UCB0CLK/UCA0STE (io), 13 AVSS (power), 14 AVCC (power), 15 P4.0/TB0 (io), 16 P4.1/TB1 (io), 17 P4.2/TB2 (io), 18 P4.3/TB0/A12 (io), 19 P4.4/TB1/A13 (io), 20 P4.5/TB2/A14 (io), 21 P4.6/TBOUTH/A15 (io), 22 P4.7/TBCLK (io), 23 P3.4/UCA0TXD/UCA0SIMO (io), 24 P3.5/UCA0RXD/UCA0SOMI (io), 25 P3.6/A6 (io), 26 P3.7/A7 (io), 27 TA1/VREF-/VeREF-/A3/P2.3 (io), 28 TA2/VREF+/VeREF+/A4/P2.4 (io), 29 P1.0/TACLK/ADC10CLK (io), 30 TA0/P1.1 (io), 31 TA1/P1.2 (io), 32 TA2/P1.3 (io), 33 SMCLK/TCK/P1.4 (io), 34 TA0/TMS/P1.5 (io), 35 TA1/TDI/TCLK/P1.6 (io), 36 TA2/TDO/TDI/P1.7 (io), 37 TEST/SBWTCK (in), 38 DVCC (power), 39 DVCC (power), 40 ROSC/P2.5 (io)

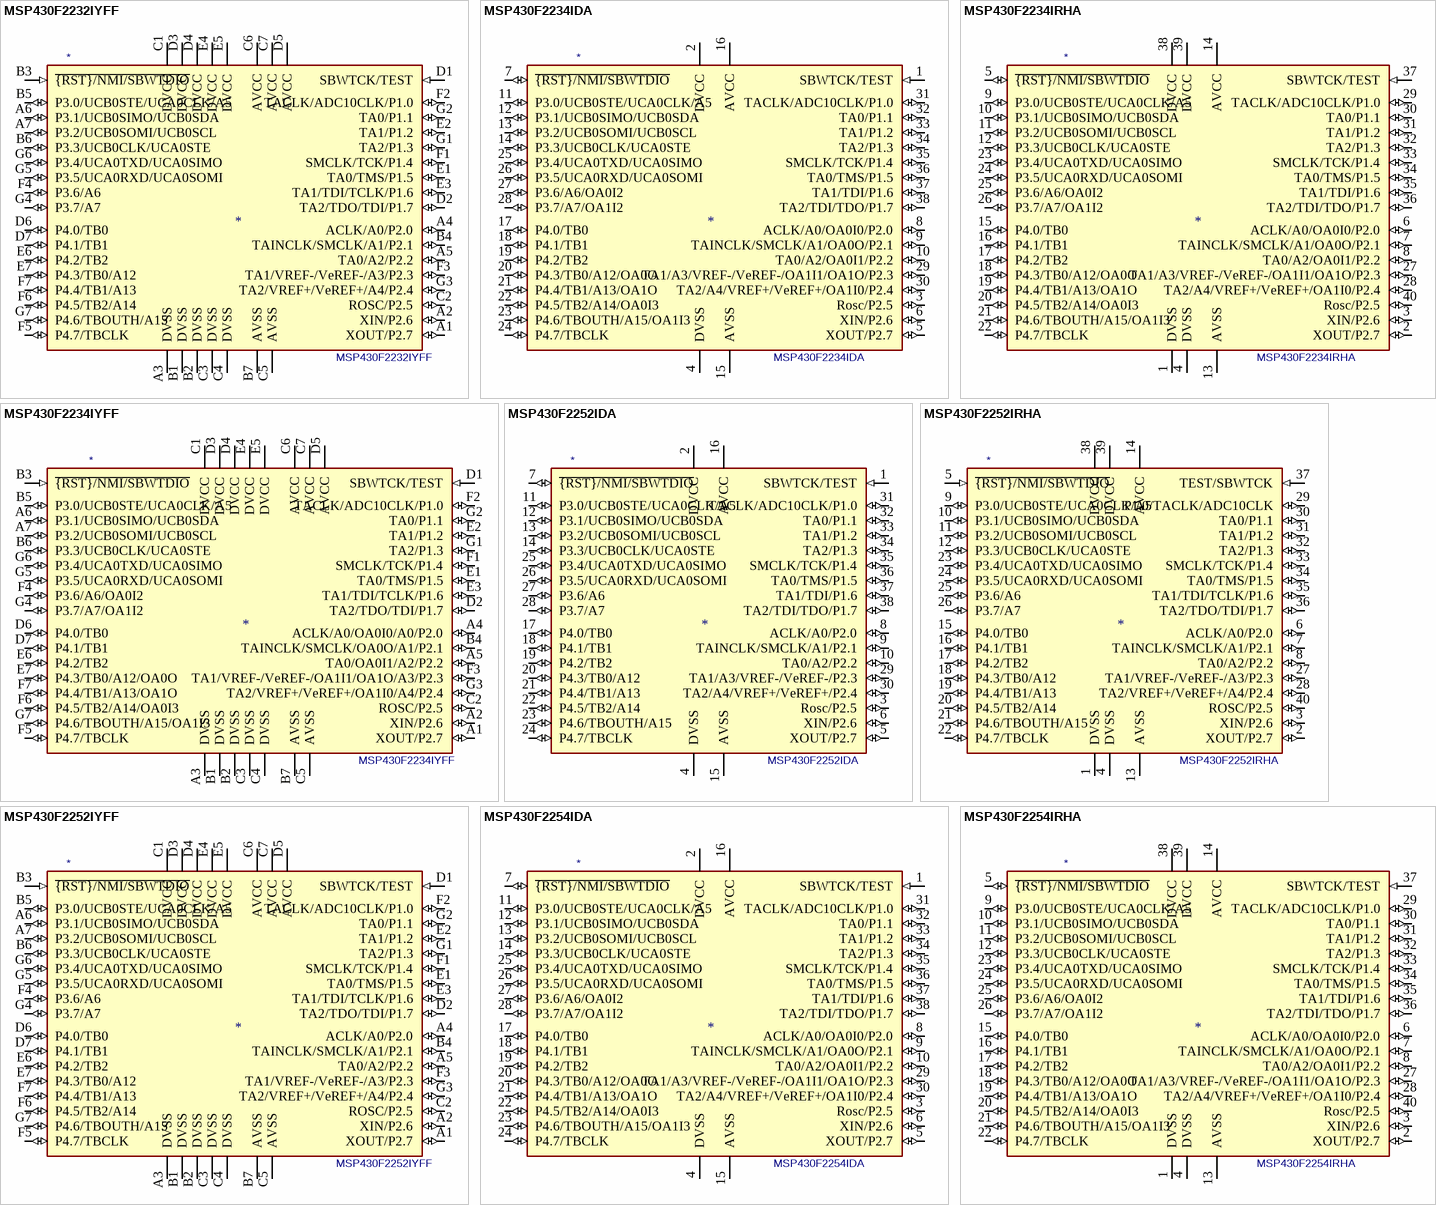
[diagram p5: symbols MSP430F2232IYFF to MSP430F2254IRHA]

## MSP430F2232IYFF
designator *  value MSP430F2232IYFF
ki_keywords: TI MSP430 16-bit mixed signal microcontroller; ki_description: 8kB + 256B Flash, 512B RAM, BGA-49; ki_fp_filters: Texas*DSBGA*3.33x3.488mm*Layout7x7*P0.4mm*; Footprint: Package_BGA:Texas_DSBGA-49_3.33x3.488mm_Layout7x7_P0.4mm; Supplier: http://www.ti.com/lit/ds/symlink/msp430f2232.pdf
footprint Texas_DSBGA-49_3.33x3.488mm_Layout7x7_P0.4mm
pins: A1 XOUT/P2.7 (io), A2 XIN/P2.6 (io), A3 DVSS (power), A4 ACLK/A0/P2.0 (io), A5 TA0/A2/P2.2 (io), A6 P3.1/UCB0SIMO/UCB0SDA (io), A7 P3.2/UCB0SOMI/UCB0SCL (io), B1 DVSS (power), B2 DVSS (power), B3 ~{{RST}/NMI/SBWTDIO} (in), B4 TAINCLK/SMCLK/A1/P2.1 (io), B5 P3.0/UCB0STE/UCA0CLK/A5 (io), B6 P3.3/UCB0CLK/UCA0STE (io), B7 AVSS (power), C1 DVCC (power), C2 ROSC/P2.5 (io), C3 DVSS (power), C4 DVSS (power), C5 AVSS (power), C6 AVCC (power), C7 AVCC (power), D1 SBWTCK/TEST (in), D2 TA2/TDO/TDI/P1.7 (io), D3 DVCC (power), D4 DVCC (power), D5 AVCC (power), D6 P4.0/TB0 (io), D7 P4.1/TB1 (io), E1 TA0/TMS/P1.5 (io), E2 TA1/P1.2 (io), E3 TA1/TDI/TCLK/P1.6 (io), E4 DVCC (power), E5 DVCC (power), E6 P4.2/TB2 (io), E7 P4.3/TB0/A12 (io), F1 SMCLK/TCK/P1.4 (io), F2 TACLK/ADC10CLK/P1.0 (io), F3 TA1/VREF-/VeREF-/A3/P2.3 (io), F4 P3.6/A6 (io), F5 P4.7/TBCLK (io), F6 P4.5/TB2/A14 (io), F7 P4.4/TB1/A13 (io), G1 TA2/P1.3 (io), G2 TA0/P1.1 (io), G3 TA2/VREF+/VeREF+/A4/P2.4 (io), G4 P3.7/A7 (io), G5 P3.5/UCA0RXD/UCA0SOMI (io), G6 P3.4/UCA0TXD/UCA0SIMO (io), G7 P4.6/TBOUTH/A15 (io)

## MSP430F2234IDA
designator *  value MSP430F2234IDA
ki_keywords: TI MSP430 16-bit mixed signal microcontroller; ki_description: 8kB + 256B Flash, 512B RAM, TSSOP-38; ki_fp_filters: TSSOP*6.1x12.5mm*P0.65mm*; Footprint: Package_SO:TSSOP-38_6.1x12.5mm_P0.65mm; Supplier: http://www.ti.com/lit/ds/symlink/msp430f2234.pdf
footprint TSSOP-38_6.1x12.5mm_P0.65mm
pins: 1 SBWTCK/TEST (in), 2 DVCC (power), 3 Rosc/P2.5 (io), 4 DVSS (power), 5 XOUT/P2.7 (io), 6 XIN/P2.6 (io), 7 ~{{RST}/NMI/SBWTDIO} (io), 8 ACLK/A0/OA0I0/P2.0 (io), 9 TAINCLK/SMCLK/A1/OA0O/P2.1 (io), 10 TA0/A2/OA0I1/P2.2 (io), 11 P3.0/UCB0STE/UCA0CLK/A5 (io), 12 P3.1/UCB0SIMO/UCB0SDA (io), 13 P3.2/UCB0SOMI/UCB0SCL (io), 14 P3.3/UCB0CLK/UCA0STE (io), 15 AVSS (power), 16 AVCC (power), 17 P4.0/TB0 (io), 18 P4.1/TB1 (io), 19 P4.2/TB2 (io), 20 P4.3/TB0/A12/OA0O (io), 21 P4.4/TB1/A13/OA1O (io), 22 P4.5/TB2/A14/OA0I3 (io), 23 P4.6/TBOUTH/A15/OA1I3 (io), 24 P4.7/TBCLK (io), 25 P3.4/UCA0TXD/UCA0SIMO (io), 26 P3.5/UCA0RXD/UCA0SOMI (io), 27 P3.6/A6/OA0I2 (io), 28 P3.7/A7/OA1I2 (io), 29 TA1/A3/VREF-/VeREF-/OA1I1/OA1O/P2.3 (io), 30 TA2/A4/VREF+/VeREF+/OA1I0/P2.4 (io), 31 TACLK/ADC10CLK/P1.0 (io), 32 TA0/P1.1 (io), 33 TA1/P1.2 (io), 34 TA2/P1.3 (io), 35 SMCLK/TCK/P1.4 (io), 36 TA0/TMS/P1.5 (io), 37 TA1/TDI/P1.6 (io), 38 TA2/TDI/TDO/P1.7 (io)

## MSP430F2234IRHA
designator *  value MSP430F2234IRHA
ki_keywords: TI MSP430 16-bit mixed signal microcontroller; ki_description: 8kB + 256B Flash, 512B RAM, QFN-40; ki_fp_filters: Texas*S?PVQFN*; Footprint: Package_DFN_QFN:Texas_S-PVQFN-N40_EP4.15x4.15mm; Supplier: http://www.ti.com/lit/ds/symlink/msp430f2234.pdf
footprint Texas_S-PVQFN-N40_EP4.15x4.15mm
pins: 1 DVSS (power), 2 XOUT/P2.7 (io), 3 XIN/P2.6 (io), 4 DVSS (power), 5 ~{{RST}/NMI/SBWTDIO} (io), 6 ACLK/A0/OA0I0/P2.0 (io), 7 TAINCLK/SMCLK/A1/OA0O/P2.1 (io), 8 TA0/A2/OA0I1/P2.2 (io), 9 P3.0/UCB0STE/UCA0CLK/A5 (io), 10 P3.1/UCB0SIMO/UCB0SDA (io), 11 P3.2/UCB0SOMI/UCB0SCL (io), 12 P3.3/UCB0CLK/UCA0STE (io), 13 AVSS (power), 14 AVCC (power), 15 P4.0/TB0 (io), 16 P4.1/TB1 (io), 17 P4.2/TB2 (io), 18 P4.3/TB0/A12/OA0O (io), 19 P4.4/TB1/A13/OA1O (io), 20 P4.5/TB2/A14/OA0I3 (io), 21 P4.6/TBOUTH/A15/OA1I3 (io), 22 P4.7/TBCLK (io), 23 P3.4/UCA0TXD/UCA0SIMO (io), 24 P3.5/UCA0RXD/UCA0SOMI (io), 25 P3.6/A6/OA0I2 (io), 26 P3.7/A7/OA1I2 (io), 27 TA1/A3/VREF-/VeREF-/OA1I1/OA1O/P2.3 (io), 28 TA2/A4/VREF+/VeREF+/OA1I0/P2.4 (io), 29 TACLK/ADC10CLK/P1.0 (io), 30 TA0/P1.1 (io), 31 TA1/P1.2 (io), 32 TA2/P1.3 (io), 33 SMCLK/TCK/P1.4 (io), 34 TA0/TMS/P1.5 (io), 35 TA1/TDI/P1.6 (io), 36 TA2/TDI/TDO/P1.7 (io), 37 SBWTCK/TEST (in), 38 DVCC (power), 39 DVCC (power), 40 Rosc/P2.5 (io)

## MSP430F2234IYFF
designator *  value MSP430F2234IYFF
ki_keywords: TI MSP430 16-bit mixed signal microcontroller; ki_description: 8kB + 256B Flash, 512B RAM, BGA-49; ki_fp_filters: Texas*DSBGA*3.33x3.488mm*Layout7x7*P0.4mm*; Footprint: Package_BGA:Texas_DSBGA-49_3.33x3.488mm_Layout7x7_P0.4mm; Supplier: http://www.ti.com/lit/ds/symlink/msp430f2234.pdf
footprint Texas_DSBGA-49_3.33x3.488mm_Layout7x7_P0.4mm
pins: A1 XOUT/P2.7 (io), A2 XIN/P2.6 (io), A3 DVSS (power), A4 ACLK/A0/OA0I0/A0/P2.0 (io), A5 TA0/OA0I1/A2/P2.2 (io), A6 P3.1/UCB0SIMO/UCB0SDA (io), A7 P3.2/UCB0SOMI/UCB0SCL (io), B1 DVSS (power), B2 DVSS (power), B3 ~{{RST}/NMI/SBWTDIO} (in), B4 TAINCLK/SMCLK/OA0O/A1/P2.1 (io), B5 P3.0/UCB0STE/UCA0CLK/A5 (io), B6 P3.3/UCB0CLK/UCA0STE (io), B7 AVSS (power), C1 DVCC (power), C2 ROSC/P2.5 (io), C3 DVSS (power), C4 DVSS (power), C5 AVSS (power), C6 AVCC (power), C7 AVCC (power), D1 SBWTCK/TEST (in), D2 TA2/TDO/TDI/P1.7 (io), D3 DVCC (power), D4 DVCC (power), D5 AVCC (power), D6 P4.0/TB0 (io), D7 P4.1/TB1 (io), E1 TA0/TMS/P1.5 (io), E2 TA1/P1.2 (io), E3 TA1/TDI/TCLK/P1.6 (io), E4 DVCC (power), E5 DVCC (power), E6 P4.2/TB2 (io), E7 P4.3/TB0/A12/OA0O (io), F1 SMCLK/TCK/P1.4 (io), F2 TACLK/ADC10CLK/P1.0 (io), F3 TA1/VREF-/VeREF-/OA1I1/OA1O/A3/P2.3 (io), F4 P3.6/A6/OA0I2 (io), F5 P4.7/TBCLK (io), F6 P4.5/TB2/A14/OA0I3 (io), F7 P4.4/TB1/A13/OA1O (io), G1 TA2/P1.3 (io), G2 TA0/P1.1 (io), G3 TA2/VREF+/VeREF+/OA1I0/A4/P2.4 (io), G4 P3.7/A7/OA1I2 (io), G5 P3.5/UCA0RXD/UCA0SOMI (io), G6 P3.4/UCA0TXD/UCA0SIMO (io), G7 P4.6/TBOUTH/A15/OA1I3 (io)

## MSP430F2252IDA
designator *  value MSP430F2252IDA
ki_keywords: TI MSP430 16-bit mixed signal microcontroller; ki_description: 16kB + 256B Flash, 512B RAM, TSSOP-38; ki_fp_filters: TSSOP*6.1x12.5mm*P0.65mm*; Footprint: Package_SO:TSSOP-38_6.1x12.5mm_P0.65mm; Supplier: http://www.ti.com/lit/ds/symlink/msp430f2252.pdf
footprint TSSOP-38_6.1x12.5mm_P0.65mm
pins: 1 SBWTCK/TEST (in), 2 DVCC (power), 3 Rosc/P2.5 (io), 4 DVSS (power), 5 XOUT/P2.7 (io), 6 XIN/P2.6 (io), 7 ~{{RST}/NMI/SBWTDIO} (io), 8 ACLK/A0/P2.0 (io), 9 TAINCLK/SMCLK/A1/P2.1 (io), 10 TA0/A2/P2.2 (io), 11 P3.0/UCB0STE/UCA0CLK/A5 (io), 12 P3.1/UCB0SIMO/UCB0SDA (io), 13 P3.2/UCB0SOMI/UCB0SCL (io), 14 P3.3/UCB0CLK/UCA0STE (io), 15 AVSS (power), 16 AVCC (power), 17 P4.0/TB0 (io), 18 P4.1/TB1 (io), 19 P4.2/TB2 (io), 20 P4.3/TB0/A12 (io), 21 P4.4/TB1/A13 (io), 22 P4.5/TB2/A14 (io), 23 P4.6/TBOUTH/A15 (io), 24 P4.7/TBCLK (io), 25 P3.4/UCA0TXD/UCA0SIMO (io), 26 P3.5/UCA0RXD/UCA0SOMI (io), 27 P3.6/A6 (io), 28 P3.7/A7 (io), 29 TA1/A3/VREF-/VeREF-/P2.3 (io), 30 TA2/A4/VREF+/VeREF+/P2.4 (io), 31 TACLK/ADC10CLK/P1.0 (io), 32 TA0/P1.1 (io), 33 TA1/P1.2 (io), 34 TA2/P1.3 (io), 35 SMCLK/TCK/P1.4 (io), 36 TA0/TMS/P1.5 (io), 37 TA1/TDI/P1.6 (io), 38 TA2/TDI/TDO/P1.7 (io)

## MSP430F2252IRHA
designator *  value MSP430F2252IRHA
ki_keywords: TI MSP430 16-bit mixed signal microcontroller; ki_description: 16kB + 256B Flash, 512B RAM, QFN-40; ki_fp_filters: Texas*S?PVQFN*; Footprint: Package_DFN_QFN:Texas_S-PVQFN-N40_EP4.15x4.15mm; Supplier: http://www.ti.com/lit/ds/symlink/msp430f2252.pdf
footprint Texas_S-PVQFN-N40_EP4.15x4.15mm
pins: 1 DVSS (power), 2 XOUT/P2.7 (io), 3 XIN/P2.6 (io), 4 DVSS (power), 5 ~{{RST}/NMI/SBWTDIO} (in), 6 ACLK/A0/P2.0 (io), 7 TAINCLK/SMCLK/A1/P2.1 (io), 8 TA0/A2/P2.2 (io), 9 P3.0/UCB0STE/UCA0CLK/A5 (io), 10 P3.1/UCB0SIMO/UCB0SDA (io), 11 P3.2/UCB0SOMI/UCB0SCL (io), 12 P3.3/UCB0CLK/UCA0STE (io), 13 AVSS (power), 14 AVCC (power), 15 P4.0/TB0 (io), 16 P4.1/TB1 (io), 17 P4.2/TB2 (io), 18 P4.3/TB0/A12 (io), 19 P4.4/TB1/A13 (io), 20 P4.5/TB2/A14 (io), 21 P4.6/TBOUTH/A15 (io), 22 P4.7/TBCLK (io), 23 P3.4/UCA0TXD/UCA0SIMO (io), 24 P3.5/UCA0RXD/UCA0SOMI (io), 25 P3.6/A6 (io), 26 P3.7/A7 (io), 27 TA1/VREF-/VeREF-/A3/P2.3 (io), 28 TA2/VREF+/VeREF+/A4/P2.4 (io), 29 P1.0/TACLK/ADC10CLK (io), 30 TA0/P1.1 (io), 31 TA1/P1.2 (io), 32 TA2/P1.3 (io), 33 SMCLK/TCK/P1.4 (io), 34 TA0/TMS/P1.5 (io), 35 TA1/TDI/TCLK/P1.6 (io), 36 TA2/TDO/TDI/P1.7 (io), 37 TEST/SBWTCK (in), 38 DVCC (power), 39 DVCC (power), 40 ROSC/P2.5 (io)

## MSP430F2252IYFF
designator *  value MSP430F2252IYFF
ki_keywords: TI MSP430 16-bit mixed signal microcontroller; ki_description: 16kB + 256B Flash, 512B RAM, BGA-49; ki_fp_filters: Texas*DSBGA*3.33x3.488mm*Layout7x7*P0.4mm*; Footprint: Package_BGA:Texas_DSBGA-49_3.33x3.488mm_Layout7x7_P0.4mm; Supplier: http://www.ti.com/lit/ds/symlink/msp430f2252.pdf
footprint Texas_DSBGA-49_3.33x3.488mm_Layout7x7_P0.4mm
pins: A1 XOUT/P2.7 (io), A2 XIN/P2.6 (io), A3 DVSS (power), A4 ACLK/A0/P2.0 (io), A5 TA0/A2/P2.2 (io), A6 P3.1/UCB0SIMO/UCB0SDA (io), A7 P3.2/UCB0SOMI/UCB0SCL (io), B1 DVSS (power), B2 DVSS (power), B3 ~{{RST}/NMI/SBWTDIO} (in), B4 TAINCLK/SMCLK/A1/P2.1 (io), B5 P3.0/UCB0STE/UCA0CLK/A5 (io), B6 P3.3/UCB0CLK/UCA0STE (io), B7 AVSS (power), C1 DVCC (power), C2 ROSC/P2.5 (io), C3 DVSS (power), C4 DVSS (power), C5 AVSS (power), C6 AVCC (power), C7 AVCC (power), D1 SBWTCK/TEST (in), D2 TA2/TDO/TDI/P1.7 (io), D3 DVCC (power), D4 DVCC (power), D5 AVCC (power), D6 P4.0/TB0 (io), D7 P4.1/TB1 (io), E1 TA0/TMS/P1.5 (io), E2 TA1/P1.2 (io), E3 TA1/TDI/TCLK/P1.6 (io), E4 DVCC (power), E5 DVCC (power), E6 P4.2/TB2 (io), E7 P4.3/TB0/A12 (io), F1 SMCLK/TCK/P1.4 (io), F2 TACLK/ADC10CLK/P1.0 (io), F3 TA1/VREF-/VeREF-/A3/P2.3 (io), F4 P3.6/A6 (io), F5 P4.7/TBCLK (io), F6 P4.5/TB2/A14 (io), F7 P4.4/TB1/A13 (io), G1 TA2/P1.3 (io), G2 TA0/P1.1 (io), G3 TA2/VREF+/VeREF+/A4/P2.4 (io), G4 P3.7/A7 (io), G5 P3.5/UCA0RXD/UCA0SOMI (io), G6 P3.4/UCA0TXD/UCA0SIMO (io), G7 P4.6/TBOUTH/A15 (io)

## MSP430F2254IDA
designator *  value MSP430F2254IDA
ki_keywords: TI MSP430 16-bit mixed signal microcontroller; ki_description: 16kB + 256B Flash, 512B RAM, TSSOP-38; ki_fp_filters: TSSOP*6.1x12.5mm*P0.65mm*; Footprint: Package_SO:TSSOP-38_6.1x12.5mm_P0.65mm; Supplier: http://www.ti.com/lit/ds/symlink/msp430f2254.pdf
footprint TSSOP-38_6.1x12.5mm_P0.65mm
pins: 1 SBWTCK/TEST (in), 2 DVCC (power), 3 Rosc/P2.5 (io), 4 DVSS (power), 5 XOUT/P2.7 (io), 6 XIN/P2.6 (io), 7 ~{{RST}/NMI/SBWTDIO} (io), 8 ACLK/A0/OA0I0/P2.0 (io), 9 TAINCLK/SMCLK/A1/OA0O/P2.1 (io), 10 TA0/A2/OA0I1/P2.2 (io), 11 P3.0/UCB0STE/UCA0CLK/A5 (io), 12 P3.1/UCB0SIMO/UCB0SDA (io), 13 P3.2/UCB0SOMI/UCB0SCL (io), 14 P3.3/UCB0CLK/UCA0STE (io), 15 AVSS (power), 16 AVCC (power), 17 P4.0/TB0 (io), 18 P4.1/TB1 (io), 19 P4.2/TB2 (io), 20 P4.3/TB0/A12/OA0O (io), 21 P4.4/TB1/A13/OA1O (io), 22 P4.5/TB2/A14/OA0I3 (io), 23 P4.6/TBOUTH/A15/OA1I3 (io), 24 P4.7/TBCLK (io), 25 P3.4/UCA0TXD/UCA0SIMO (io), 26 P3.5/UCA0RXD/UCA0SOMI (io), 27 P3.6/A6/OA0I2 (io), 28 P3.7/A7/OA1I2 (io), 29 TA1/A3/VREF-/VeREF-/OA1I1/OA1O/P2.3 (io), 30 TA2/A4/VREF+/VeREF+/OA1I0/P2.4 (io), 31 TACLK/ADC10CLK/P1.0 (io), 32 TA0/P1.1 (io), 33 TA1/P1.2 (io), 34 TA2/P1.3 (io), 35 SMCLK/TCK/P1.4 (io), 36 TA0/TMS/P1.5 (io), 37 TA1/TDI/P1.6 (io), 38 TA2/TDI/TDO/P1.7 (io)

## MSP430F2254IRHA
designator *  value MSP430F2254IRHA
ki_keywords: TI MSP430 16-bit mixed signal microcontroller; ki_description: 16kB + 256B Flash, 512B RAM, QFN-40; ki_fp_filters: Texas*S?PVQFN*; Footprint: Package_DFN_QFN:Texas_S-PVQFN-N40_EP4.15x4.15mm; Supplier: http://www.ti.com/lit/ds/symlink/msp430f2254.pdf
footprint Texas_S-PVQFN-N40_EP4.15x4.15mm
pins: 1 DVSS (power), 2 XOUT/P2.7 (io), 3 XIN/P2.6 (io), 4 DVSS (power), 5 ~{{RST}/NMI/SBWTDIO} (io), 6 ACLK/A0/OA0I0/P2.0 (io), 7 TAINCLK/SMCLK/A1/OA0O/P2.1 (io), 8 TA0/A2/OA0I1/P2.2 (io), 9 P3.0/UCB0STE/UCA0CLK/A5 (io), 10 P3.1/UCB0SIMO/UCB0SDA (io), 11 P3.2/UCB0SOMI/UCB0SCL (io), 12 P3.3/UCB0CLK/UCA0STE (io), 13 AVSS (power), 14 AVCC (power), 15 P4.0/TB0 (io), 16 P4.1/TB1 (io), 17 P4.2/TB2 (io), 18 P4.3/TB0/A12/OA0O (io), 19 P4.4/TB1/A13/OA1O (io), 20 P4.5/TB2/A14/OA0I3 (io), 21 P4.6/TBOUTH/A15/OA1I3 (io), 22 P4.7/TBCLK (io), 23 P3.4/UCA0TXD/UCA0SIMO (io), 24 P3.5/UCA0RXD/UCA0SOMI (io), 25 P3.6/A6/OA0I2 (io), 26 P3.7/A7/OA1I2 (io), 27 TA1/A3/VREF-/VeREF-/OA1I1/OA1O/P2.3 (io), 28 TA2/A4/VREF+/VeREF+/OA1I0/P2.4 (io), 29 TACLK/ADC10CLK/P1.0 (io), 30 TA0/P1.1 (io), 31 TA1/P1.2 (io), 32 TA2/P1.3 (io), 33 SMCLK/TCK/P1.4 (io), 34 TA0/TMS/P1.5 (io), 35 TA1/TDI/P1.6 (io), 36 TA2/TDI/TDO/P1.7 (io), 37 SBWTCK/TEST (in), 38 DVCC (power), 39 DVCC (power), 40 Rosc/P2.5 (io)

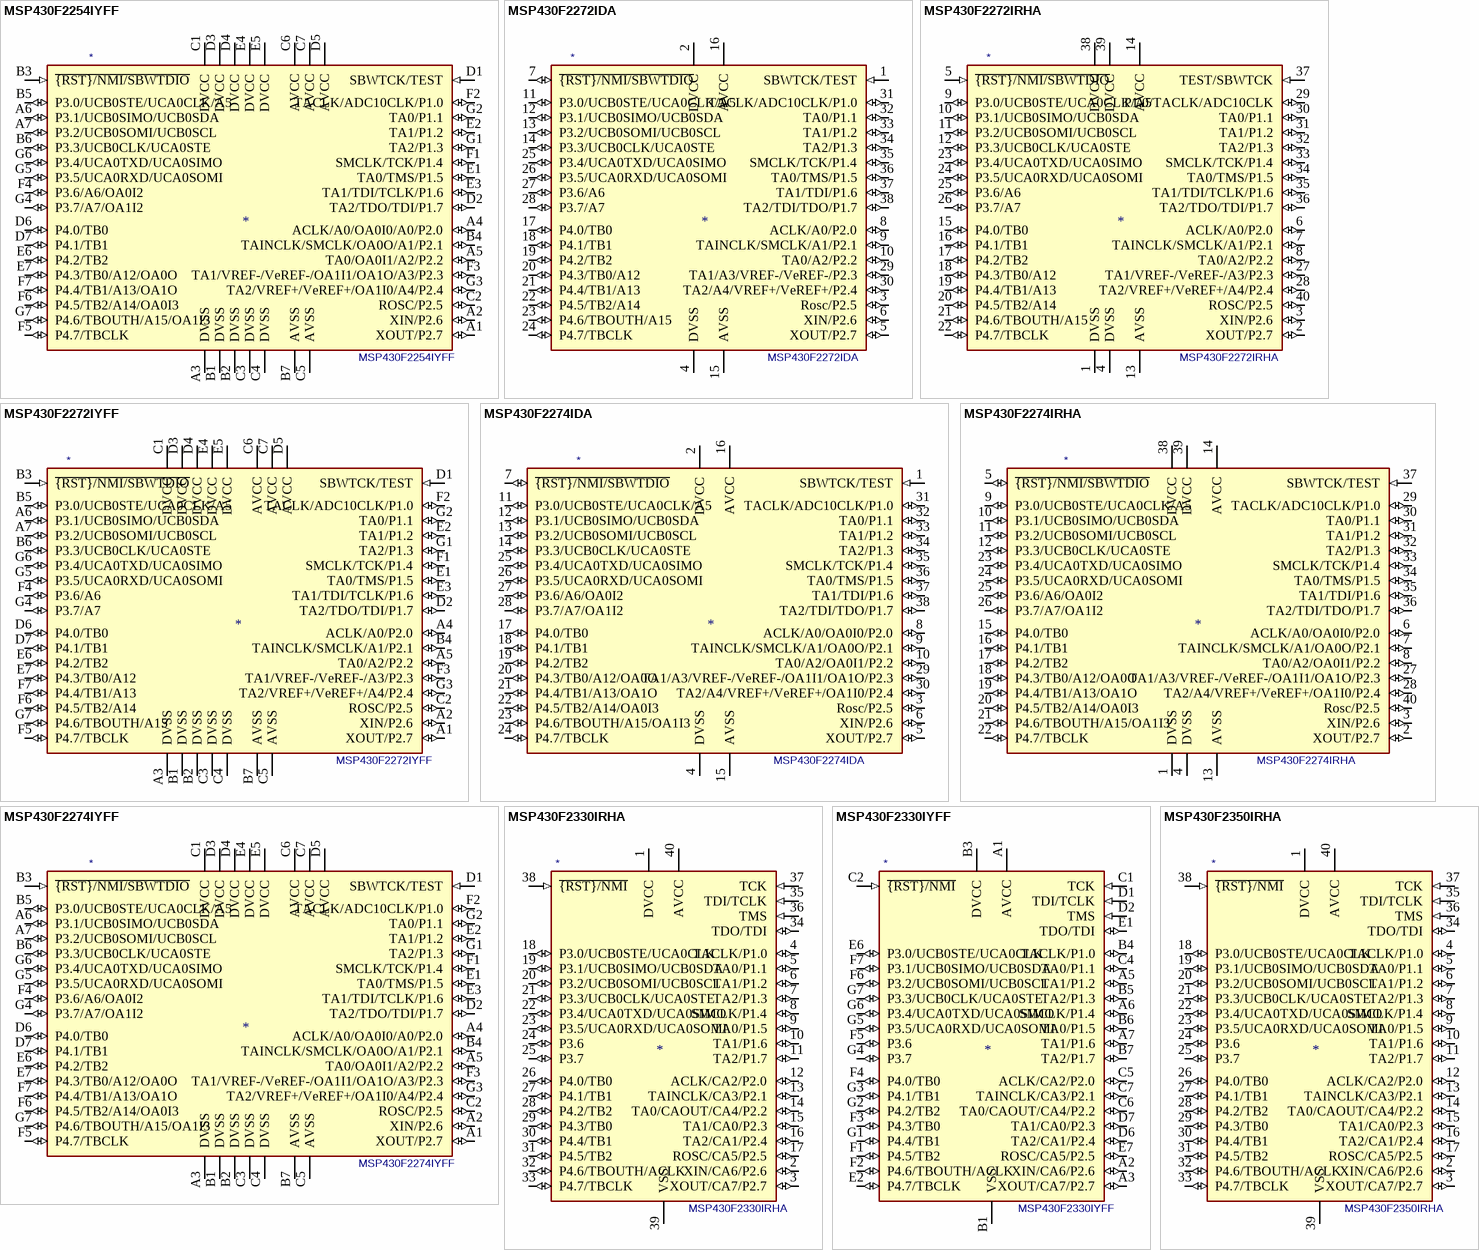
[diagram p6: symbols MSP430F2254IYFF to MSP430F2350IRHA]

## MSP430F2254IYFF
designator *  value MSP430F2254IYFF
ki_keywords: TI MSP430 16-bit mixed signal microcontroller; ki_description: 16kB + 256B Flash, 512B RAM, BGA-49; ki_fp_filters: Texas*DSBGA*3.33x3.488mm*Layout7x7*P0.4mm*; Footprint: Package_BGA:Texas_DSBGA-49_3.33x3.488mm_Layout7x7_P0.4mm; Supplier: http://www.ti.com/lit/ds/symlink/msp430f2254.pdf
footprint Texas_DSBGA-49_3.33x3.488mm_Layout7x7_P0.4mm
pins: A1 XOUT/P2.7 (io), A2 XIN/P2.6 (io), A3 DVSS (power), A4 ACLK/A0/OA0I0/A0/P2.0 (io), A5 TA0/OA0I1/A2/P2.2 (io), A6 P3.1/UCB0SIMO/UCB0SDA (io), A7 P3.2/UCB0SOMI/UCB0SCL (io), B1 DVSS (power), B2 DVSS (power), B3 ~{{RST}/NMI/SBWTDIO} (in), B4 TAINCLK/SMCLK/OA0O/A1/P2.1 (io), B5 P3.0/UCB0STE/UCA0CLK/A5 (io), B6 P3.3/UCB0CLK/UCA0STE (io), B7 AVSS (power), C1 DVCC (power), C2 ROSC/P2.5 (io), C3 DVSS (power), C4 DVSS (power), C5 AVSS (power), C6 AVCC (power), C7 AVCC (power), D1 SBWTCK/TEST (in), D2 TA2/TDO/TDI/P1.7 (io), D3 DVCC (power), D4 DVCC (power), D5 AVCC (power), D6 P4.0/TB0 (io), D7 P4.1/TB1 (io), E1 TA0/TMS/P1.5 (io), E2 TA1/P1.2 (io), E3 TA1/TDI/TCLK/P1.6 (io), E4 DVCC (power), E5 DVCC (power), E6 P4.2/TB2 (io), E7 P4.3/TB0/A12/OA0O (io), F1 SMCLK/TCK/P1.4 (io), F2 TACLK/ADC10CLK/P1.0 (io), F3 TA1/VREF-/VeREF-/OA1I1/OA1O/A3/P2.3 (io), F4 P3.6/A6/OA0I2 (io), F5 P4.7/TBCLK (io), F6 P4.5/TB2/A14/OA0I3 (io), F7 P4.4/TB1/A13/OA1O (io), G1 TA2/P1.3 (io), G2 TA0/P1.1 (io), G3 TA2/VREF+/VeREF+/OA1I0/A4/P2.4 (io), G4 P3.7/A7/OA1I2 (io), G5 P3.5/UCA0RXD/UCA0SOMI (io), G6 P3.4/UCA0TXD/UCA0SIMO (io), G7 P4.6/TBOUTH/A15/OA1I3 (io)

## MSP430F2272IDA
designator *  value MSP430F2272IDA
ki_keywords: TI MSP430 16-bit mixed signal microcontroller; ki_description: 32kB + 256B Flash, 1kB RAM, TSSOP-38; ki_fp_filters: TSSOP*6.1x12.5mm*P0.65mm*; Footprint: Package_SO:TSSOP-38_6.1x12.5mm_P0.65mm; Supplier: http://www.ti.com/lit/ds/symlink/msp430f2272.pdf
footprint TSSOP-38_6.1x12.5mm_P0.65mm
pins: 1 SBWTCK/TEST (in), 2 DVCC (power), 3 Rosc/P2.5 (io), 4 DVSS (power), 5 XOUT/P2.7 (io), 6 XIN/P2.6 (io), 7 ~{{RST}/NMI/SBWTDIO} (io), 8 ACLK/A0/P2.0 (io), 9 TAINCLK/SMCLK/A1/P2.1 (io), 10 TA0/A2/P2.2 (io), 11 P3.0/UCB0STE/UCA0CLK/A5 (io), 12 P3.1/UCB0SIMO/UCB0SDA (io), 13 P3.2/UCB0SOMI/UCB0SCL (io), 14 P3.3/UCB0CLK/UCA0STE (io), 15 AVSS (power), 16 AVCC (power), 17 P4.0/TB0 (io), 18 P4.1/TB1 (io), 19 P4.2/TB2 (io), 20 P4.3/TB0/A12 (io), 21 P4.4/TB1/A13 (io), 22 P4.5/TB2/A14 (io), 23 P4.6/TBOUTH/A15 (io), 24 P4.7/TBCLK (io), 25 P3.4/UCA0TXD/UCA0SIMO (io), 26 P3.5/UCA0RXD/UCA0SOMI (io), 27 P3.6/A6 (io), 28 P3.7/A7 (io), 29 TA1/A3/VREF-/VeREF-/P2.3 (io), 30 TA2/A4/VREF+/VeREF+/P2.4 (io), 31 TACLK/ADC10CLK/P1.0 (io), 32 TA0/P1.1 (io), 33 TA1/P1.2 (io), 34 TA2/P1.3 (io), 35 SMCLK/TCK/P1.4 (io), 36 TA0/TMS/P1.5 (io), 37 TA1/TDI/P1.6 (io), 38 TA2/TDI/TDO/P1.7 (io)

## MSP430F2272IRHA
designator *  value MSP430F2272IRHA
ki_keywords: TI MSP430 16-bit mixed signal microcontroller; ki_description: 32kB + 256B Flash, 1kB RAM, QFN-40; ki_fp_filters: Texas*S?PVQFN*; Footprint: Package_DFN_QFN:Texas_S-PVQFN-N40_EP4.15x4.15mm; Supplier: http://www.ti.com/lit/ds/symlink/msp430f2272.pdf
footprint Texas_S-PVQFN-N40_EP4.15x4.15mm
pins: 1 DVSS (power), 2 XOUT/P2.7 (io), 3 XIN/P2.6 (io), 4 DVSS (power), 5 ~{{RST}/NMI/SBWTDIO} (in), 6 ACLK/A0/P2.0 (io), 7 TAINCLK/SMCLK/A1/P2.1 (io), 8 TA0/A2/P2.2 (io), 9 P3.0/UCB0STE/UCA0CLK/A5 (io), 10 P3.1/UCB0SIMO/UCB0SDA (io), 11 P3.2/UCB0SOMI/UCB0SCL (io), 12 P3.3/UCB0CLK/UCA0STE (io), 13 AVSS (power), 14 AVCC (power), 15 P4.0/TB0 (io), 16 P4.1/TB1 (io), 17 P4.2/TB2 (io), 18 P4.3/TB0/A12 (io), 19 P4.4/TB1/A13 (io), 20 P4.5/TB2/A14 (io), 21 P4.6/TBOUTH/A15 (io), 22 P4.7/TBCLK (io), 23 P3.4/UCA0TXD/UCA0SIMO (io), 24 P3.5/UCA0RXD/UCA0SOMI (io), 25 P3.6/A6 (io), 26 P3.7/A7 (io), 27 TA1/VREF-/VeREF-/A3/P2.3 (io), 28 TA2/VREF+/VeREF+/A4/P2.4 (io), 29 P1.0/TACLK/ADC10CLK (io), 30 TA0/P1.1 (io), 31 TA1/P1.2 (io), 32 TA2/P1.3 (io), 33 SMCLK/TCK/P1.4 (io), 34 TA0/TMS/P1.5 (io), 35 TA1/TDI/TCLK/P1.6 (io), 36 TA2/TDO/TDI/P1.7 (io), 37 TEST/SBWTCK (in), 38 DVCC (power), 39 DVCC (power), 40 ROSC/P2.5 (io)

## MSP430F2272IYFF
designator *  value MSP430F2272IYFF
ki_keywords: TI MSP430 16-bit mixed signal microcontroller; ki_description: 32kB + 256B Flash, 1kB RAM, BGA-49; ki_fp_filters: Texas*DSBGA*3.33x3.488mm*Layout7x7*P0.4mm*; Footprint: Package_BGA:Texas_DSBGA-49_3.33x3.488mm_Layout7x7_P0.4mm; Supplier: http://www.ti.com/lit/ds/symlink/msp430f2272.pdf
footprint Texas_DSBGA-49_3.33x3.488mm_Layout7x7_P0.4mm
pins: A1 XOUT/P2.7 (io), A2 XIN/P2.6 (io), A3 DVSS (power), A4 ACLK/A0/P2.0 (io), A5 TA0/A2/P2.2 (io), A6 P3.1/UCB0SIMO/UCB0SDA (io), A7 P3.2/UCB0SOMI/UCB0SCL (io), B1 DVSS (power), B2 DVSS (power), B3 ~{{RST}/NMI/SBWTDIO} (in), B4 TAINCLK/SMCLK/A1/P2.1 (io), B5 P3.0/UCB0STE/UCA0CLK/A5 (io), B6 P3.3/UCB0CLK/UCA0STE (io), B7 AVSS (power), C1 DVCC (power), C2 ROSC/P2.5 (io), C3 DVSS (power), C4 DVSS (power), C5 AVSS (power), C6 AVCC (power), C7 AVCC (power), D1 SBWTCK/TEST (in), D2 TA2/TDO/TDI/P1.7 (io), D3 DVCC (power), D4 DVCC (power), D5 AVCC (power), D6 P4.0/TB0 (io), D7 P4.1/TB1 (io), E1 TA0/TMS/P1.5 (io), E2 TA1/P1.2 (io), E3 TA1/TDI/TCLK/P1.6 (io), E4 DVCC (power), E5 DVCC (power), E6 P4.2/TB2 (io), E7 P4.3/TB0/A12 (io), F1 SMCLK/TCK/P1.4 (io), F2 TACLK/ADC10CLK/P1.0 (io), F3 TA1/VREF-/VeREF-/A3/P2.3 (io), F4 P3.6/A6 (io), F5 P4.7/TBCLK (io), F6 P4.5/TB2/A14 (io), F7 P4.4/TB1/A13 (io), G1 TA2/P1.3 (io), G2 TA0/P1.1 (io), G3 TA2/VREF+/VeREF+/A4/P2.4 (io), G4 P3.7/A7 (io), G5 P3.5/UCA0RXD/UCA0SOMI (io), G6 P3.4/UCA0TXD/UCA0SIMO (io), G7 P4.6/TBOUTH/A15 (io)

## MSP430F2274IDA
designator *  value MSP430F2274IDA
ki_keywords: TI MSP430 16-bit mixed signal microcontroller; ki_description: 32kB + 256B Flash, 1kB RAM, TSSOP-38; ki_fp_filters: TSSOP*6.1x12.5mm*P0.65mm*; Footprint: Package_SO:TSSOP-38_6.1x12.5mm_P0.65mm; Supplier: http://www.ti.com/lit/ds/symlink/msp430f2274.pdf
footprint TSSOP-38_6.1x12.5mm_P0.65mm
pins: 1 SBWTCK/TEST (in), 2 DVCC (power), 3 Rosc/P2.5 (io), 4 DVSS (power), 5 XOUT/P2.7 (io), 6 XIN/P2.6 (io), 7 ~{{RST}/NMI/SBWTDIO} (io), 8 ACLK/A0/OA0I0/P2.0 (io), 9 TAINCLK/SMCLK/A1/OA0O/P2.1 (io), 10 TA0/A2/OA0I1/P2.2 (io), 11 P3.0/UCB0STE/UCA0CLK/A5 (io), 12 P3.1/UCB0SIMO/UCB0SDA (io), 13 P3.2/UCB0SOMI/UCB0SCL (io), 14 P3.3/UCB0CLK/UCA0STE (io), 15 AVSS (power), 16 AVCC (power), 17 P4.0/TB0 (io), 18 P4.1/TB1 (io), 19 P4.2/TB2 (io), 20 P4.3/TB0/A12/OA0O (io), 21 P4.4/TB1/A13/OA1O (io), 22 P4.5/TB2/A14/OA0I3 (io), 23 P4.6/TBOUTH/A15/OA1I3 (io), 24 P4.7/TBCLK (io), 25 P3.4/UCA0TXD/UCA0SIMO (io), 26 P3.5/UCA0RXD/UCA0SOMI (io), 27 P3.6/A6/OA0I2 (io), 28 P3.7/A7/OA1I2 (io), 29 TA1/A3/VREF-/VeREF-/OA1I1/OA1O/P2.3 (io), 30 TA2/A4/VREF+/VeREF+/OA1I0/P2.4 (io), 31 TACLK/ADC10CLK/P1.0 (io), 32 TA0/P1.1 (io), 33 TA1/P1.2 (io), 34 TA2/P1.3 (io), 35 SMCLK/TCK/P1.4 (io), 36 TA0/TMS/P1.5 (io), 37 TA1/TDI/P1.6 (io), 38 TA2/TDI/TDO/P1.7 (io)

## MSP430F2274IRHA
designator *  value MSP430F2274IRHA
ki_keywords: TI MSP430 16-bit mixed signal microcontroller; ki_description: 32kB + 256B Flash, 1kB RAM, QFN-40; ki_fp_filters: Texas*S?PVQFN*; Footprint: Package_DFN_QFN:Texas_S-PVQFN-N40_EP4.15x4.15mm; Supplier: http://www.ti.com/lit/ds/symlink/msp430f2274.pdf
footprint Texas_S-PVQFN-N40_EP4.15x4.15mm
pins: 1 DVSS (power), 2 XOUT/P2.7 (io), 3 XIN/P2.6 (io), 4 DVSS (power), 5 ~{{RST}/NMI/SBWTDIO} (io), 6 ACLK/A0/OA0I0/P2.0 (io), 7 TAINCLK/SMCLK/A1/OA0O/P2.1 (io), 8 TA0/A2/OA0I1/P2.2 (io), 9 P3.0/UCB0STE/UCA0CLK/A5 (io), 10 P3.1/UCB0SIMO/UCB0SDA (io), 11 P3.2/UCB0SOMI/UCB0SCL (io), 12 P3.3/UCB0CLK/UCA0STE (io), 13 AVSS (power), 14 AVCC (power), 15 P4.0/TB0 (io), 16 P4.1/TB1 (io), 17 P4.2/TB2 (io), 18 P4.3/TB0/A12/OA0O (io), 19 P4.4/TB1/A13/OA1O (io), 20 P4.5/TB2/A14/OA0I3 (io), 21 P4.6/TBOUTH/A15/OA1I3 (io), 22 P4.7/TBCLK (io), 23 P3.4/UCA0TXD/UCA0SIMO (io), 24 P3.5/UCA0RXD/UCA0SOMI (io), 25 P3.6/A6/OA0I2 (io), 26 P3.7/A7/OA1I2 (io), 27 TA1/A3/VREF-/VeREF-/OA1I1/OA1O/P2.3 (io), 28 TA2/A4/VREF+/VeREF+/OA1I0/P2.4 (io), 29 TACLK/ADC10CLK/P1.0 (io), 30 TA0/P1.1 (io), 31 TA1/P1.2 (io), 32 TA2/P1.3 (io), 33 SMCLK/TCK/P1.4 (io), 34 TA0/TMS/P1.5 (io), 35 TA1/TDI/P1.6 (io), 36 TA2/TDI/TDO/P1.7 (io), 37 SBWTCK/TEST (in), 38 DVCC (power), 39 DVCC (power), 40 Rosc/P2.5 (io)

## MSP430F2274IYFF
designator *  value MSP430F2274IYFF
ki_keywords: TI MSP430 16-bit mixed signal microcontroller; ki_description: 32kB + 256B Flash, 1kB RAM, BGA-49; ki_fp_filters: Texas*DSBGA*3.33x3.488mm*Layout7x7*P0.4mm*; Footprint: Package_BGA:Texas_DSBGA-49_3.33x3.488mm_Layout7x7_P0.4mm; Supplier: http://www.ti.com/lit/ds/symlink/msp430f2274.pdf
footprint Texas_DSBGA-49_3.33x3.488mm_Layout7x7_P0.4mm
pins: A1 XOUT/P2.7 (io), A2 XIN/P2.6 (io), A3 DVSS (power), A4 ACLK/A0/OA0I0/A0/P2.0 (io), A5 TA0/OA0I1/A2/P2.2 (io), A6 P3.1/UCB0SIMO/UCB0SDA (io), A7 P3.2/UCB0SOMI/UCB0SCL (io), B1 DVSS (power), B2 DVSS (power), B3 ~{{RST}/NMI/SBWTDIO} (in), B4 TAINCLK/SMCLK/OA0O/A1/P2.1 (io), B5 P3.0/UCB0STE/UCA0CLK/A5 (io), B6 P3.3/UCB0CLK/UCA0STE (io), B7 AVSS (power), C1 DVCC (power), C2 ROSC/P2.5 (io), C3 DVSS (power), C4 DVSS (power), C5 AVSS (power), C6 AVCC (power), C7 AVCC (power), D1 SBWTCK/TEST (in), D2 TA2/TDO/TDI/P1.7 (io), D3 DVCC (power), D4 DVCC (power), D5 AVCC (power), D6 P4.0/TB0 (io), D7 P4.1/TB1 (io), E1 TA0/TMS/P1.5 (io), E2 TA1/P1.2 (io), E3 TA1/TDI/TCLK/P1.6 (io), E4 DVCC (power), E5 DVCC (power), E6 P4.2/TB2 (io), E7 P4.3/TB0/A12/OA0O (io), F1 SMCLK/TCK/P1.4 (io), F2 TACLK/ADC10CLK/P1.0 (io), F3 TA1/VREF-/VeREF-/OA1I1/OA1O/A3/P2.3 (io), F4 P3.6/A6/OA0I2 (io), F5 P4.7/TBCLK (io), F6 P4.5/TB2/A14/OA0I3 (io), F7 P4.4/TB1/A13/OA1O (io), G1 TA2/P1.3 (io), G2 TA0/P1.1 (io), G3 TA2/VREF+/VeREF+/OA1I0/A4/P2.4 (io), G4 P3.7/A7/OA1I2 (io), G5 P3.5/UCA0RXD/UCA0SOMI (io), G6 P3.4/UCA0TXD/UCA0SIMO (io), G7 P4.6/TBOUTH/A15/OA1I3 (io)

## MSP430F2330IRHA
designator *  value MSP430F2330IRHA
ki_keywords: TI MSP430 16-bit mixed signal microcontroller; ki_description: 8kB + 256B Flash, 1kB RAM, QFN-40; ki_fp_filters: Texas*S?PVQFN*; Footprint: Package_DFN_QFN:Texas_S-PVQFN-N40_EP4.15x4.15mm; Supplier: http://www.ti.com/lit/ds/symlink/msp430f2330.pdf
footprint Texas_S-PVQFN-N40_EP4.15x4.15mm
pins: 1 DVCC (power), 2 XIN/CA6/P2.6 (io), 3 XOUT/CA7/P2.7 (io), 4 TACLK/P1.0 (io), 5 TA0/P1.1 (io), 6 TA1/P1.2 (io), 7 TA2/P1.3 (io), 8 SMCLK/P1.4 (io), 9 TA0/P1.5 (io), 10 TA1/P1.6 (io), 11 TA2/P1.7 (io), 12 ACLK/CA2/P2.0 (io), 13 TAINCLK/CA3/P2.1 (io), 14 TA0/CAOUT/CA4/P2.2 (io), 15 TA1/CA0/P2.3 (io), 16 TA2/CA1/P2.4 (io), 17 ROSC/CA5/P2.5 (io), 18 P3.0/UCB0STE/UCA0CLK (io), 19 P3.1/UCB0SIMO/UCB0SDA (io), 20 P3.2/UCB0SOMI/UCB0SCL (io), 21 P3.3/UCB0CLK/UCA0STE (io), 22 P3.4/UCA0TXD/UCA0SIMO (io), 23 P3.5/UCA0RXD/UCA0SOMI (io), 24 P3.6 (io), 25 P3.7 (io), 26 P4.0/TB0 (io), 27 P4.1/TB1 (io), 28 P4.2/TB2 (io), 29 P4.3/TB0 (io), 30 P4.4/TB1 (io), 31 P4.5/TB2 (io), 32 P4.6/TBOUTH/ACLK (io), 33 P4.7/TBCLK (io), 34 TDO/TDI (io), 35 TDI/TCLK (in), 36 TMS (in), 37 TCK (in), 38 ~{{RST}/NMI} (in), 39 VSS (power), 40 AVCC (power)

## MSP430F2330IYFF
designator *  value MSP430F2330IYFF
ki_keywords: TI MSP430 16-bit mixed signal microcontroller; ki_description: 8kB + 256B Flash, 1kB RAM, BGA-49; ki_fp_filters: Texas*DSBGA*3.33x3.488mm*Layout7x7*P0.4mm*; Footprint: Package_BGA:Texas_DSBGA-49_3.33x3.488mm_Layout7x7_P0.4mm; Supplier: http://www.ti.com/lit/ds/symlink/msp430f2330.pdf
footprint Texas_DSBGA-49_3.33x3.488mm_Layout7x7_P0.4mm
pins: A1 AVCC (power), A2 XIN/CA6/P2.6 (io), A3 XOUT/CA7/P2.7 (io), A5 TA1/P1.2 (io), A6 SMCLK/P1.4 (io), A7 TA1/P1.6 (io), B1 VSS (power), B3 DVCC (power), B4 TACLK/P1.0 (io), B5 TA2/P1.3 (io), B6 TA0/P1.5 (io), B7 TA2/P1.7 (io), C1 TCK (in), C2 ~{{RST}/NMI} (in), C4 TA0/P1.1 (io), C5 ACLK/CA2/P2.0 (io), C6 TA0/CAOUT/CA4/P2.2 (io), C7 TAINCLK/CA3/P2.1 (io), D1 TDI/TCLK (in), D2 TMS (in), D6 TA2/CA1/P2.4 (io), D7 TA1/CA0/P2.3 (io), E1 TDO/TDI (io), E2 P4.7/TBCLK (io), E6 P3.0/UCB0STE/UCA0CLK (io), E7 ROSC/CA5/P2.5 (io), F1 P4.5/TB2 (io), F2 P4.6/TBOUTH/ACLK (io), F3 P4.3/TB0 (io), F4 P4.0/TB0 (io), F5 P3.6 (io), F6 P3.2/UCB0SOMI/UCB0SCL (io), F7 P3.1/UCB0SIMO/UCB0SDA (io), G1 P4.4/TB1 (io), G2 P4.2/TB2 (io), G3 P4.1/TB1 (io), G4 P3.7 (io), G5 P3.5/UCA0RXD/UCA0SOMI (io), G6 P3.4/UCA0TXD/UCA0SIMO (io), G7 P3.3/UCB0CLK/UCA0STE (io)